# Altium schematic symbol library GL3520-10 SCH_QFN88_Individual_100_Library.SchLib: 94 symbols (part 1 of 2)
Pins are listed as number, name and electrical type; pins without a type are passive.

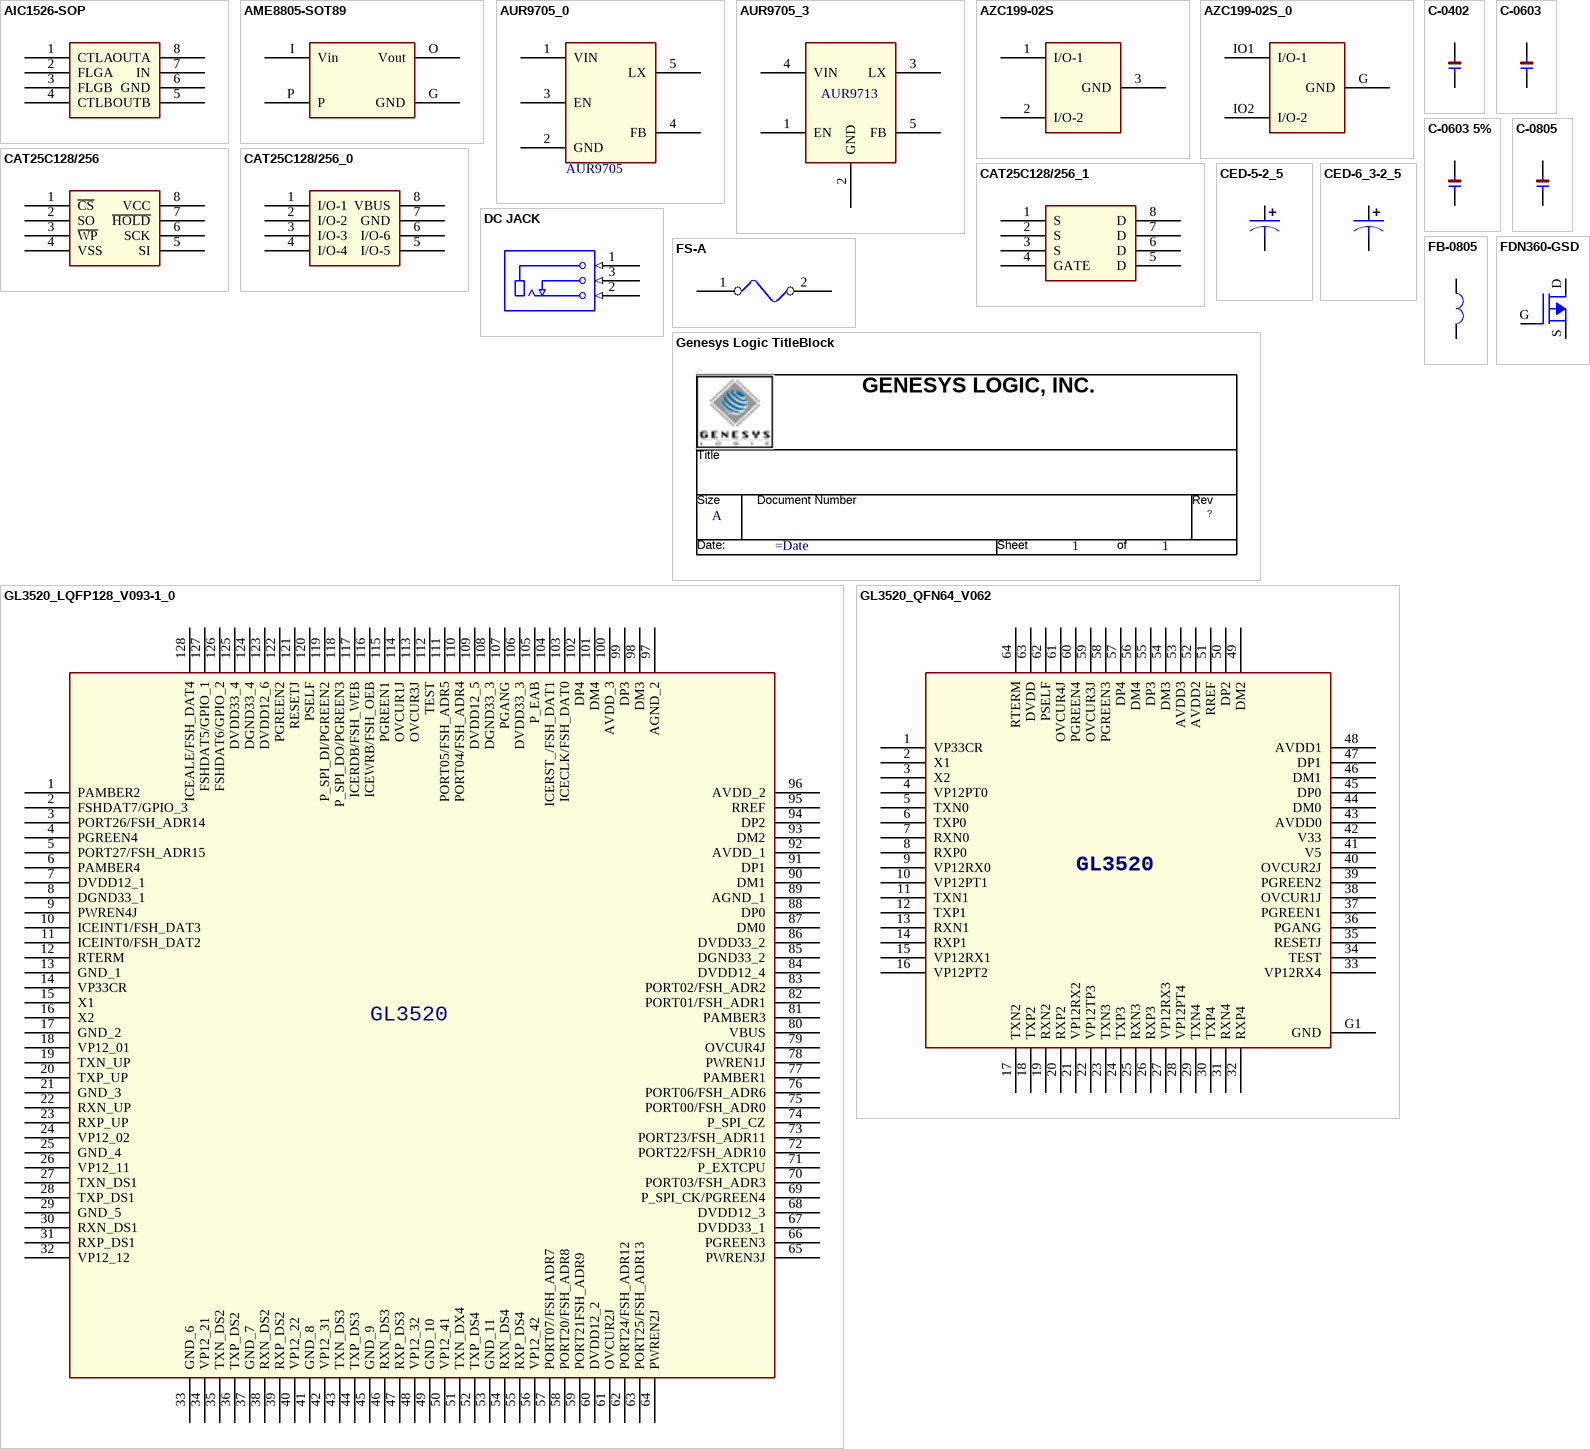
[diagram p0: symbols AIC1526-SOP to GL3520_QFN64_V062]

## AIC1526-SOP
designator U?
footprint I-SOP8-1_27A
pins: 1 CTLA, 2 FLGA, 3 FLGB, 4 CTLB, 5 OUTB, 6 GND, 7 IN, 8 OUTA

## AME8805-SOT89
designator U?
footprint I-SOT89-GIO-A
pins: G GND, I Vin, O Vout, P

## AUR9705_0
designator U?, comment AUR9705
footprint I-TSOT23-5P-2_9x1_6x0_95A
pins: 1 VIN, 2 GND, 3 EN, 4 FB, 5 LX

## AUR9705_3
designator U?, comment AUR9713
footprint I-TSOT23-5P-2_9x1_6x0_95A
pins: 1 EN, 2 GND, 3 LX, 4 VIN, 5 FB

## AZC199-02S
designator U?
pins: 1 I/O-1, 2 I/O-2, 3 GND

## AZC199-02S_0
designator U?
pins: G GND, IO1 I/O-1, IO2 I/O-2

## C-0402
designator C?
footprint CCS-0402
pins: 1, 2

## C-0603
designator C?
footprint CCS-0603
pins: 1, 2

## C-0603 5%
designator C?
footprint CCS-0603
pins: 1, 2

## C-0805
designator C?
footprint CCS-0805
pins: 1, 2

## CAT25C128/256
designator U?
pins: 1 ~{CS}, 2 SO, 3 ~{WP}, 4 VSS, 5 SI, 6 SCK, 7 ~{HOLD}, 8 VCC

## CAT25C128/256_0
designator U?
pins: 1 I/O-1, 2 I/O-2, 3 I/O-3, 4 I/O-4, 5 I/O-5, 6 I/O-6, 7 GND, 8 VBUS

## CAT25C128/256_1
designator U?
pins: 1 S, 2 S, 3 S, 4 GATE, 5 D, 6 D, 7 D, 8 D

## CED-5-2_5
designator EC?
footprint CED-5-2_5
pins: 1, 2
text: +

## CED-6_3-2_5
designator EC?
footprint CED-6_3-2_5
pins: 1, 2
text: +

## DC JACK
designator J?
footprint CND-DCJ-A
pins: 1 1S (in), 2 3T (in), 3 2TS (in)

## FB-0805
designator LB?
footprint LBS-0805
pins: 1, 2

## FDN360-GSD
designator Q?
footprint T-SOT23-GSD-A
pins: D, G, S

## FS-A
designator F?
footprint FS-A
pins: 1, 2

## Genesys Logic TitleBlock
designator *  Page Count: 1  Page Size: A  (hidden comment: *)  (graphical)
Page Number: 1; RevCode: ?; Page Create Date: March  8, 1995; Page Modify Date: =Date
text: GENESYS LOGIC, INC.; Title; Size; Document Number; Rev; Date:; Sheet; of

## GL3520_LQFP128_V093-1_0
designator U?
footprint I-LQFP128-0_4A
pins: 1 PAMBER2, 2 FSHDAT7/GPIO_3, 3 PORT26/FSH_ADR14, 4 PGREEN4, 5 PORT27/FSH_ADR15, 6 PAMBER4, 7 DVDD12_1, 8 DGND33_1, 9 PWREN4J, 10 ICEINT1/FSH_DAT3, 11 ICEINT0/FSH_DAT2, 12 RTERM, 13 GND_1, 14 VP33CR, 15 X1, 16 X2, 17 GND_2, 18 VP12_01, 19 TXN_UP, 20 TXP_UP, 21 GND_3, 22 RXN_UP, 23 RXP_UP, 24 VP12_02, 25 GND_4, 26 VP12_11, 27 TXN_DS1, 28 TXP_DS1, 29 GND_5, 30 RXN_DS1, 31 RXP_DS1, 32 VP12_12, 33 GND_6, 34 VP12_21, 35 TXN_DS2, 36 TXP_DS2, 37 GND_7, 38 RXN_DS2, 39 RXP_DS2, 40 VP12_22, 41 GND_8, 42 VP12_31, 43 TXN_DS3, 44 TXP_DS3, 45 GND_9, 46 RXN_DS3, 47 RXP_DS3, 48 VP12_32, 49 GND_10, 50 VP12_41, 51 TXN_DX4, 52 TXP_DS4, 53 GND_11, 54 RXN_DS4, 55 RXP_DS4, 56 VP12_42, 57 PORT07/FSH_ADR7, 58 PORT20/FSH_ADR8, 59 PORT21FSH_ADR9, 60 DVDD12_2, 61 OVCUR2J, 62 PORT24/FSH_ADR12, 63 PORT25/FSH_ADR13, 64 PWREN2J, 65 PWREN3J, 66 PGREEN3, 67 DVDD33_1, 68 DVDD12_3, 69 P_SPI_CK/PGREEN4, 70 PORT03/FSH_ADR3, 71 P_EXTCPU, 72 PORT22/FSH_ADR10, 73 PORT23/FSH_ADR11, 74 P_SPI_CZ, 75 PORT00/FSH_ADR0, 76 PORT06/FSH_ADR6, 77 PAMBER1, 78 PWREN1J, 79 OVCUR4J, 80 VBUS, 81 PAMBER3, 82 PORT01/FSH_ADR1, 83 PORT02/FSH_ADR2, 84 DVDD12_4, 85 DGND33_2, 86 DVDD33_2, 87 DM0, 88 DP0, 89 AGND_1, 90 DM1, 91 DP1, 92 AVDD_1, 93 DM2, 94 DP2, 95 RREF, 96 AVDD_2, 97 AGND_2, 98 DM3, 99 DP3, 100 AVDD_3, 101 DM4, 102 DP4, 103 ICECLK/FSH_DAT0, 104 ICERST_/FSH_DAT1, 105 P_EAB, 106 DVDD33_3, 107 PGANG, 108 DGND33_3, 109 DVDD12_5, 110 PORT04/FSH_ADR4, 111 PORT05/FSH_ADR5, 112 TEST, 113 OVCUR3J, 114 OVCUR1J, 115 PGREEN1, 116 ICEWRB/FSH_OEB, 117 ICERDB/FSH_WEB, 118 P_SPI_DO/PGREEN3, 119 P_SPI_DI/PGREEN2, 120 PSELF, 121 RESETJ, 122 PGREEN2, 123 DVDD12_6, 124 DGND33_4, 125 DVDD33_4, 126 FSHDAT6/GPIO_2, 127 FSHDAT5/GPIO_1, 128 ICEALE/FSH_DAT4
text: GL3520

## GL3520_QFN64_V062
designator U?
footprint I-LQFN64-9x9x0_5A
pins: 1 VP33CR, 2 X1, 3 X2, 4 VP12PT0, 5 TXN0, 6 TXP0, 7 RXN0, 8 RXP0, 9 VP12RX0, 10 VP12PT1, 11 TXN1, 12 TXP1, 13 RXN1, 14 RXP1, 15 VP12RX1, 16 VP12PT2, 17 TXN2, 18 TXP2, 19 RXN2, 20 RXP2, 21 VP12RX2, 22 VP12TP3, 23 TXN3, 24 TXP3, 25 RXN3, 26 RXP3, 27 VP12RX3, 28 VP12PT4, 29 TXN4, 30 TXP4, 31 RXN4, 32 RXP4, 33 VP12RX4, 34 TEST, 35 RESETJ, 36 PGANG, 37 PGREEN1, 38 OVCUR1J, 39 PGREEN2, 40 OVCUR2J, 41 V5, 42 V33, 43 AVDD0, 44 DM0, 45 DP0, 46 DM1, 47 DP1, 48 AVDD1, 49 DM2, 50 DP2, 51 RREF, 52 AVDD2, 53 AVDD3, 54 DM3, 55 DP3, 56 DM4, 57 DP4, 58 PGREEN3, 59 OVCUR3J, 60 PGREEN4, 61 OVCUR4J, 62 PSELF, 63 DVDD, 64 RTERM, G1 GND
text: GL3520

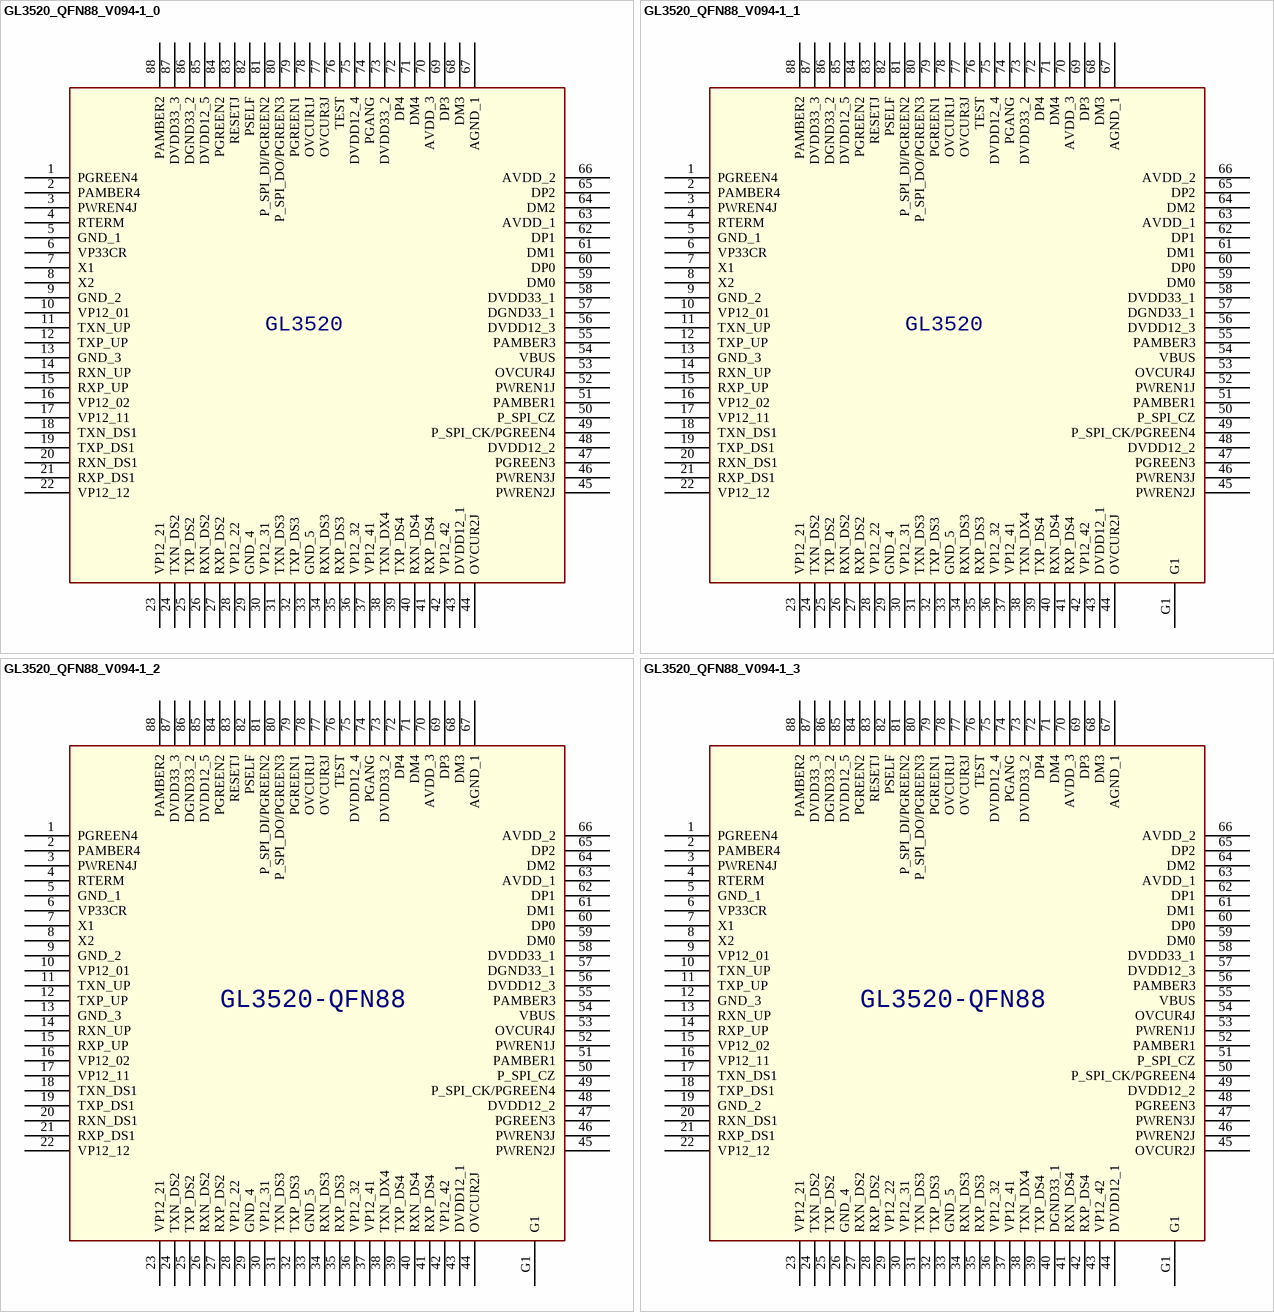
[diagram p1: symbols GL3520_QFN88_V094-1_0 to GL3520_QFN88_V094-1_3]

## GL3520_QFN88_V094-1_0
designator U?
footprint I-LQFP128-0_4A
pins: 1 PGREEN4, 2 PAMBER4, 3 PWREN4J, 4 RTERM, 5 GND_1, 6 VP33CR, 7 X1, 8 X2, 9 GND_2, 10 VP12_01, 11 TXN_UP, 12 TXP_UP, 13 GND_3, 14 RXN_UP, 15 RXP_UP, 16 VP12_02, 17 VP12_11, 18 TXN_DS1, 19 TXP_DS1, 20 RXN_DS1, 21 RXP_DS1, 22 VP12_12, 23 VP12_21, 24 TXN_DS2, 25 TXP_DS2, 26 RXN_DS2, 27 RXP_DS2, 28 VP12_22, 29 GND_4, 30 VP12_31, 31 TXN_DS3, 32 TXP_DS3, 33 GND_5, 34 RXN_DS3, 35 RXP_DS3, 36 VP12_32, 37 VP12_41, 38 TXN_DX4, 39 TXP_DS4, 40 RXN_DS4, 41 RXP_DS4, 42 VP12_42, 43 DVDD12_1, 44 OVCUR2J, 45 PWREN2J, 46 PWREN3J, 47 PGREEN3, 48 DVDD12_2, 49 P_SPI_CK/PGREEN4, 50 P_SPI_CZ, 51 PAMBER1, 52 PWREN1J, 53 OVCUR4J, 54 VBUS, 55 PAMBER3, 56 DVDD12_3, 57 DGND33_1, 58 DVDD33_1, 59 DM0, 60 DP0, 61 DM1, 62 DP1, 63 AVDD_1, 64 DM2, 65 DP2, 66 AVDD_2, 67 AGND_1, 68 DM3, 69 DP3, 70 AVDD_3, 71 DM4, 72 DP4, 73 DVDD33_2, 74 PGANG, 75 DVDD12_4, 76 TEST, 77 OVCUR3J, 78 OVCUR1J, 79 PGREEN1, 80 P_SPI_DO/PGREEN3, 81 P_SPI_DI/PGREEN2, 82 PSELF, 83 RESETJ, 84 PGREEN2, 85 DVDD12_5, 86 DGND33_2, 87 DVDD33_3, 88 PAMBER2
text: GL3520

## GL3520_QFN88_V094-1_1
designator U?
footprint I-LQFP128-0_4A
pins: 1 PGREEN4, 2 PAMBER4, 3 PWREN4J, 4 RTERM, 5 GND_1, 6 VP33CR, 7 X1, 8 X2, 9 GND_2, 10 VP12_01, 11 TXN_UP, 12 TXP_UP, 13 GND_3, 14 RXN_UP, 15 RXP_UP, 16 VP12_02, 17 VP12_11, 18 TXN_DS1, 19 TXP_DS1, 20 RXN_DS1, 21 RXP_DS1, 22 VP12_12, 23 VP12_21, 24 TXN_DS2, 25 TXP_DS2, 26 RXN_DS2, 27 RXP_DS2, 28 VP12_22, 29 GND_4, 30 VP12_31, 31 TXN_DS3, 32 TXP_DS3, 33 GND_5, 34 RXN_DS3, 35 RXP_DS3, 36 VP12_32, 37 VP12_41, 38 TXN_DX4, 39 TXP_DS4, 40 RXN_DS4, 41 RXP_DS4, 42 VP12_42, 43 DVDD12_1, 44 OVCUR2J, 45 PWREN2J, 46 PWREN3J, 47 PGREEN3, 48 DVDD12_2, 49 P_SPI_CK/PGREEN4, 50 P_SPI_CZ, 51 PAMBER1, 52 PWREN1J, 53 OVCUR4J, 54 VBUS, 55 PAMBER3, 56 DVDD12_3, 57 DGND33_1, 58 DVDD33_1, 59 DM0, 60 DP0, 61 DM1, 62 DP1, 63 AVDD_1, 64 DM2, 65 DP2, 66 AVDD_2, 67 AGND_1, 68 DM3, 69 DP3, 70 AVDD_3, 71 DM4, 72 DP4, 73 DVDD33_2, 74 PGANG, 75 DVDD12_4, 76 TEST, 77 OVCUR3J, 78 OVCUR1J, 79 PGREEN1, 80 P_SPI_DO/PGREEN3, 81 P_SPI_DI/PGREEN2, 82 PSELF, 83 RESETJ, 84 PGREEN2, 85 DVDD12_5, 86 DGND33_2, 87 DVDD33_3, 88 PAMBER2, G1
text: GL3520

## GL3520_QFN88_V094-1_2
designator U?  (value not drawn)
footprint I-LQFP128-0_4A
pins: 1 PGREEN4, 2 PAMBER4, 3 PWREN4J, 4 RTERM, 5 GND_1, 6 VP33CR, 7 X1, 8 X2, 9 GND_2, 10 VP12_01, 11 TXN_UP, 12 TXP_UP, 13 GND_3, 14 RXN_UP, 15 RXP_UP, 16 VP12_02, 17 VP12_11, 18 TXN_DS1, 19 TXP_DS1, 20 RXN_DS1, 21 RXP_DS1, 22 VP12_12, 23 VP12_21, 24 TXN_DS2, 25 TXP_DS2, 26 RXN_DS2, 27 RXP_DS2, 28 VP12_22, 29 GND_4, 30 VP12_31, 31 TXN_DS3, 32 TXP_DS3, 33 GND_5, 34 RXN_DS3, 35 RXP_DS3, 36 VP12_32, 37 VP12_41, 38 TXN_DX4, 39 TXP_DS4, 40 RXN_DS4, 41 RXP_DS4, 42 VP12_42, 43 DVDD12_1, 44 OVCUR2J, 45 PWREN2J, 46 PWREN3J, 47 PGREEN3, 48 DVDD12_2, 49 P_SPI_CK/PGREEN4, 50 P_SPI_CZ, 51 PAMBER1, 52 PWREN1J, 53 OVCUR4J, 54 VBUS, 55 PAMBER3, 56 DVDD12_3, 57 DGND33_1, 58 DVDD33_1, 59 DM0, 60 DP0, 61 DM1, 62 DP1, 63 AVDD_1, 64 DM2, 65 DP2, 66 AVDD_2, 67 AGND_1, 68 DM3, 69 DP3, 70 AVDD_3, 71 DM4, 72 DP4, 73 DVDD33_2, 74 PGANG, 75 DVDD12_4, 76 TEST, 77 OVCUR3J, 78 OVCUR1J, 79 PGREEN1, 80 P_SPI_DO/PGREEN3, 81 P_SPI_DI/PGREEN2, 82 PSELF, 83 RESETJ, 84 PGREEN2, 85 DVDD12_5, 86 DGND33_2, 87 DVDD33_3, 88 PAMBER2, G1
text: GL3520-QFN88

## GL3520_QFN88_V094-1_3
designator U?  (value not drawn)
footprint I-LQFP128-0_4A
pins: 1 PGREEN4, 2 PAMBER4, 3 PWREN4J, 4 RTERM, 5 GND_1, 6 VP33CR, 7 X1, 8 X2, 9 VP12_01, 10 TXN_UP, 11 TXP_UP, 12 GND_3, 13 RXN_UP, 14 RXP_UP, 15 VP12_02, 16 VP12_11, 17 TXN_DS1, 18 TXP_DS1, 19 GND_2, 20 RXN_DS1, 21 RXP_DS1, 22 VP12_12, 23 VP12_21, 24 TXN_DS2, 25 TXP_DS2, 26 GND_4, 27 RXN_DS2, 28 RXP_DS2, 29 VP12_22, 30 VP12_31, 31 TXN_DS3, 32 TXP_DS3, 33 GND_5, 34 RXN_DS3, 35 RXP_DS3, 36 VP12_32, 37 VP12_41, 38 TXN_DX4, 39 TXP_DS4, 40 DGND33_1, 41 RXN_DS4, 42 RXP_DS4, 43 VP12_42, 44 DVDD12_1, 45 OVCUR2J, 46 PWREN2J, 47 PWREN3J, 48 PGREEN3, 49 DVDD12_2, 50 P_SPI_CK/PGREEN4, 51 P_SPI_CZ, 52 PAMBER1, 53 PWREN1J, 54 OVCUR4J, 55 VBUS, 56 PAMBER3, 57 DVDD12_3, 58 DVDD33_1, 59 DM0, 60 DP0, 61 DM1, 62 DP1, 63 AVDD_1, 64 DM2, 65 DP2, 66 AVDD_2, 67 AGND_1, 68 DM3, 69 DP3, 70 AVDD_3, 71 DM4, 72 DP4, 73 DVDD33_2, 74 PGANG, 75 DVDD12_4, 76 TEST, 77 OVCUR3J, 78 OVCUR1J, 79 PGREEN1, 80 P_SPI_DO/PGREEN3, 81 P_SPI_DI/PGREEN2, 82 PSELF, 83 RESETJ, 84 PGREEN2, 85 DVDD12_5, 86 DGND33_2, 87 DVDD33_3, 88 PAMBER2, G1
text: GL3520-QFN88

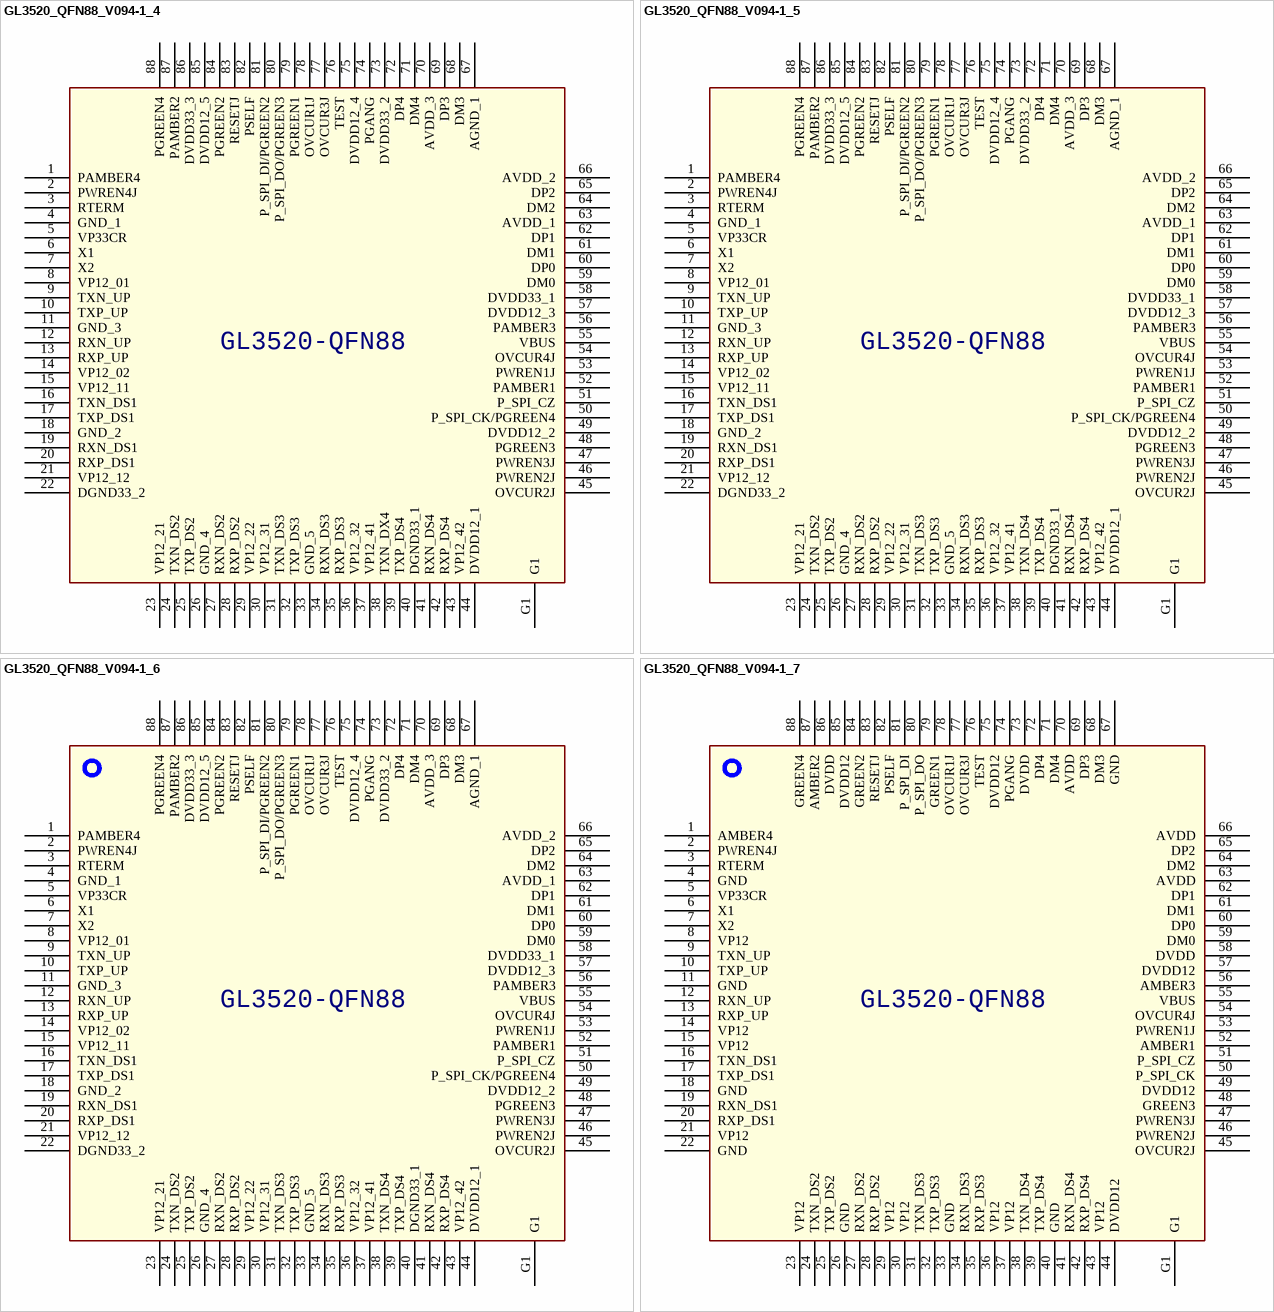
[diagram p2: symbols GL3520_QFN88_V094-1_4 to GL3520_QFN88_V094-1_7]

## GL3520_QFN88_V094-1_4
designator U?  (value not drawn)
footprint I-LQFP128-0_4A
pins: 1 PAMBER4, 2 PWREN4J, 3 RTERM, 4 GND_1, 5 VP33CR, 6 X1, 7 X2, 8 VP12_01, 9 TXN_UP, 10 TXP_UP, 11 GND_3, 12 RXN_UP, 13 RXP_UP, 14 VP12_02, 15 VP12_11, 16 TXN_DS1, 17 TXP_DS1, 18 GND_2, 19 RXN_DS1, 20 RXP_DS1, 21 VP12_12, 22 DGND33_2, 23 VP12_21, 24 TXN_DS2, 25 TXP_DS2, 26 GND_4, 27 RXN_DS2, 28 RXP_DS2, 29 VP12_22, 30 VP12_31, 31 TXN_DS3, 32 TXP_DS3, 33 GND_5, 34 RXN_DS3, 35 RXP_DS3, 36 VP12_32, 37 VP12_41, 38 TXN_DX4, 39 TXP_DS4, 40 DGND33_1, 41 RXN_DS4, 42 RXP_DS4, 43 VP12_42, 44 DVDD12_1, 45 OVCUR2J, 46 PWREN2J, 47 PWREN3J, 48 PGREEN3, 49 DVDD12_2, 50 P_SPI_CK/PGREEN4, 51 P_SPI_CZ, 52 PAMBER1, 53 PWREN1J, 54 OVCUR4J, 55 VBUS, 56 PAMBER3, 57 DVDD12_3, 58 DVDD33_1, 59 DM0, 60 DP0, 61 DM1, 62 DP1, 63 AVDD_1, 64 DM2, 65 DP2, 66 AVDD_2, 67 AGND_1, 68 DM3, 69 DP3, 70 AVDD_3, 71 DM4, 72 DP4, 73 DVDD33_2, 74 PGANG, 75 DVDD12_4, 76 TEST, 77 OVCUR3J, 78 OVCUR1J, 79 PGREEN1, 80 P_SPI_DO/PGREEN3, 81 P_SPI_DI/PGREEN2, 82 PSELF, 83 RESETJ, 84 PGREEN2, 85 DVDD12_5, 86 DVDD33_3, 87 PAMBER2, 88 PGREEN4, G1
text: GL3520-QFN88

## GL3520_QFN88_V094-1_5
designator U?  (value not drawn)
footprint I-LQFP128-0_4A
pins: 1 PAMBER4, 2 PWREN4J, 3 RTERM, 4 GND_1, 5 VP33CR, 6 X1, 7 X2, 8 VP12_01, 9 TXN_UP, 10 TXP_UP, 11 GND_3, 12 RXN_UP, 13 RXP_UP, 14 VP12_02, 15 VP12_11, 16 TXN_DS1, 17 TXP_DS1, 18 GND_2, 19 RXN_DS1, 20 RXP_DS1, 21 VP12_12, 22 DGND33_2, 23 VP12_21, 24 TXN_DS2, 25 TXP_DS2, 26 GND_4, 27 RXN_DS2, 28 RXP_DS2, 29 VP12_22, 30 VP12_31, 31 TXN_DS3, 32 TXP_DS3, 33 GND_5, 34 RXN_DS3, 35 RXP_DS3, 36 VP12_32, 37 VP12_41, 38 TXN_DS4, 39 TXP_DS4, 40 DGND33_1, 41 RXN_DS4, 42 RXP_DS4, 43 VP12_42, 44 DVDD12_1, 45 OVCUR2J, 46 PWREN2J, 47 PWREN3J, 48 PGREEN3, 49 DVDD12_2, 50 P_SPI_CK/PGREEN4, 51 P_SPI_CZ, 52 PAMBER1, 53 PWREN1J, 54 OVCUR4J, 55 VBUS, 56 PAMBER3, 57 DVDD12_3, 58 DVDD33_1, 59 DM0, 60 DP0, 61 DM1, 62 DP1, 63 AVDD_1, 64 DM2, 65 DP2, 66 AVDD_2, 67 AGND_1, 68 DM3, 69 DP3, 70 AVDD_3, 71 DM4, 72 DP4, 73 DVDD33_2, 74 PGANG, 75 DVDD12_4, 76 TEST, 77 OVCUR3J, 78 OVCUR1J, 79 PGREEN1, 80 P_SPI_DO/PGREEN3, 81 P_SPI_DI/PGREEN2, 82 PSELF, 83 RESETJ, 84 PGREEN2, 85 DVDD12_5, 86 DVDD33_3, 87 PAMBER2, 88 PGREEN4, G1
text: GL3520-QFN88

## GL3520_QFN88_V094-1_6
designator U?  (value not drawn)
footprint I-LQFP128-0_4A
pins: 1 PAMBER4, 2 PWREN4J, 3 RTERM, 4 GND_1, 5 VP33CR, 6 X1, 7 X2, 8 VP12_01, 9 TXN_UP, 10 TXP_UP, 11 GND_3, 12 RXN_UP, 13 RXP_UP, 14 VP12_02, 15 VP12_11, 16 TXN_DS1, 17 TXP_DS1, 18 GND_2, 19 RXN_DS1, 20 RXP_DS1, 21 VP12_12, 22 DGND33_2, 23 VP12_21, 24 TXN_DS2, 25 TXP_DS2, 26 GND_4, 27 RXN_DS2, 28 RXP_DS2, 29 VP12_22, 30 VP12_31, 31 TXN_DS3, 32 TXP_DS3, 33 GND_5, 34 RXN_DS3, 35 RXP_DS3, 36 VP12_32, 37 VP12_41, 38 TXN_DS4, 39 TXP_DS4, 40 DGND33_1, 41 RXN_DS4, 42 RXP_DS4, 43 VP12_42, 44 DVDD12_1, 45 OVCUR2J, 46 PWREN2J, 47 PWREN3J, 48 PGREEN3, 49 DVDD12_2, 50 P_SPI_CK/PGREEN4, 51 P_SPI_CZ, 52 PAMBER1, 53 PWREN1J, 54 OVCUR4J, 55 VBUS, 56 PAMBER3, 57 DVDD12_3, 58 DVDD33_1, 59 DM0, 60 DP0, 61 DM1, 62 DP1, 63 AVDD_1, 64 DM2, 65 DP2, 66 AVDD_2, 67 AGND_1, 68 DM3, 69 DP3, 70 AVDD_3, 71 DM4, 72 DP4, 73 DVDD33_2, 74 PGANG, 75 DVDD12_4, 76 TEST, 77 OVCUR3J, 78 OVCUR1J, 79 PGREEN1, 80 P_SPI_DO/PGREEN3, 81 P_SPI_DI/PGREEN2, 82 PSELF, 83 RESETJ, 84 PGREEN2, 85 DVDD12_5, 86 DVDD33_3, 87 PAMBER2, 88 PGREEN4, G1
text: GL3520-QFN88

## GL3520_QFN88_V094-1_7
designator U?  (value not drawn)
footprint I-LQFP128-0_4A
pins: 1 AMBER4, 2 PWREN4J, 3 RTERM, 4 GND, 5 VP33CR, 6 X1, 7 X2, 8 VP12, 9 TXN_UP, 10 TXP_UP, 11 GND, 12 RXN_UP, 13 RXP_UP, 14 VP12, 15 VP12, 16 TXN_DS1, 17 TXP_DS1, 18 GND, 19 RXN_DS1, 20 RXP_DS1, 21 VP12, 22 GND, 23 VP12, 24 TXN_DS2, 25 TXP_DS2, 26 GND, 27 RXN_DS2, 28 RXP_DS2, 29 VP12, 30 VP12, 31 TXN_DS3, 32 TXP_DS3, 33 GND, 34 RXN_DS3, 35 RXP_DS3, 36 VP12, 37 VP12, 38 TXN_DS4, 39 TXP_DS4, 40 GND, 41 RXN_DS4, 42 RXP_DS4, 43 VP12, 44 DVDD12, 45 OVCUR2J, 46 PWREN2J, 47 PWREN3J, 48 GREEN3, 49 DVDD12, 50 P_SPI_CK, 51 P_SPI_CZ, 52 AMBER1, 53 PWREN1J, 54 OVCUR4J, 55 VBUS, 56 AMBER3, 57 DVDD12, 58 DVDD, 59 DM0, 60 DP0, 61 DM1, 62 DP1, 63 AVDD, 64 DM2, 65 DP2, 66 AVDD, 67 GND, 68 DM3, 69 DP3, 70 AVDD, 71 DM4, 72 DP4, 73 DVDD, 74 PGANG, 75 DVDD12, 76 TEST, 77 OVCUR3J, 78 OVCUR1J, 79 GREEN1, 80 P_SPI_DO, 81 P_SPI_DI, 82 PSELF, 83 RESETJ, 84 GREEN2, 85 DVDD12, 86 DVDD, 87 AMBER2, 88 GREEN4, G1
text: GL3520-QFN88

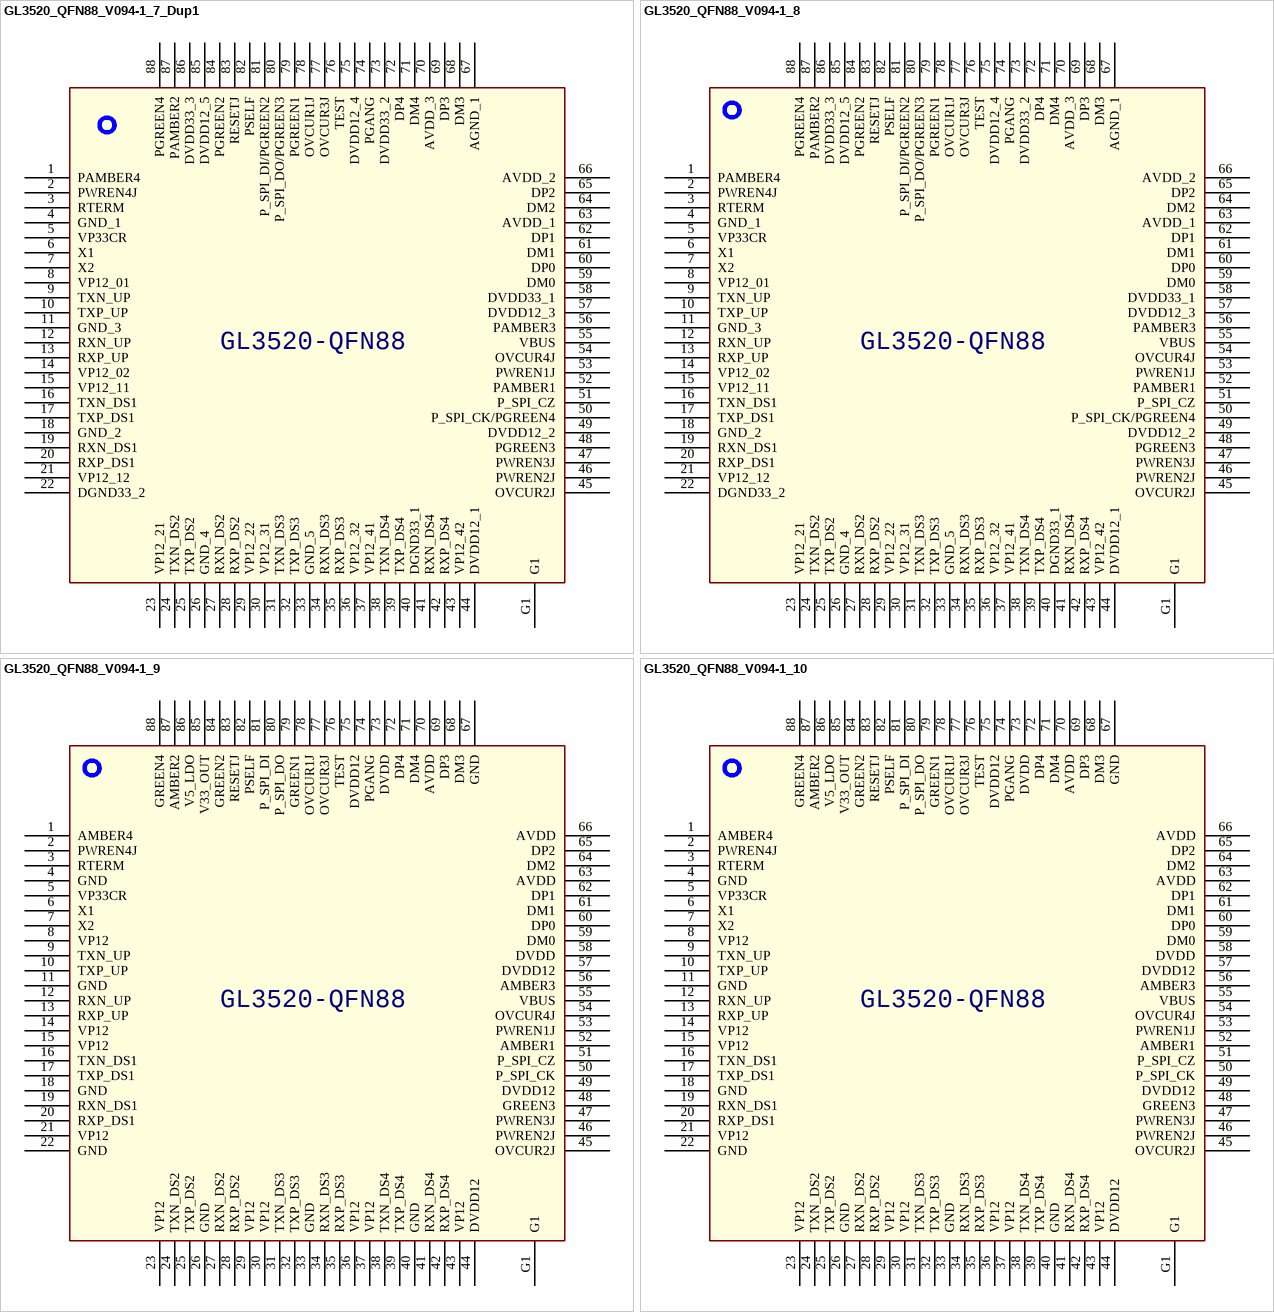
[diagram p3: symbols GL3520_QFN88_V094-1_7_Dup1 to GL3520_QFN88_V094-1_10]

## GL3520_QFN88_V094-1_7_Dup1
designator U?  (value not drawn)
footprint I-LQFP128-0_4A
pins: 1 PAMBER4, 2 PWREN4J, 3 RTERM, 4 GND_1, 5 VP33CR, 6 X1, 7 X2, 8 VP12_01, 9 TXN_UP, 10 TXP_UP, 11 GND_3, 12 RXN_UP, 13 RXP_UP, 14 VP12_02, 15 VP12_11, 16 TXN_DS1, 17 TXP_DS1, 18 GND_2, 19 RXN_DS1, 20 RXP_DS1, 21 VP12_12, 22 DGND33_2, 23 VP12_21, 24 TXN_DS2, 25 TXP_DS2, 26 GND_4, 27 RXN_DS2, 28 RXP_DS2, 29 VP12_22, 30 VP12_31, 31 TXN_DS3, 32 TXP_DS3, 33 GND_5, 34 RXN_DS3, 35 RXP_DS3, 36 VP12_32, 37 VP12_41, 38 TXN_DS4, 39 TXP_DS4, 40 DGND33_1, 41 RXN_DS4, 42 RXP_DS4, 43 VP12_42, 44 DVDD12_1, 45 OVCUR2J, 46 PWREN2J, 47 PWREN3J, 48 PGREEN3, 49 DVDD12_2, 50 P_SPI_CK/PGREEN4, 51 P_SPI_CZ, 52 PAMBER1, 53 PWREN1J, 54 OVCUR4J, 55 VBUS, 56 PAMBER3, 57 DVDD12_3, 58 DVDD33_1, 59 DM0, 60 DP0, 61 DM1, 62 DP1, 63 AVDD_1, 64 DM2, 65 DP2, 66 AVDD_2, 67 AGND_1, 68 DM3, 69 DP3, 70 AVDD_3, 71 DM4, 72 DP4, 73 DVDD33_2, 74 PGANG, 75 DVDD12_4, 76 TEST, 77 OVCUR3J, 78 OVCUR1J, 79 PGREEN1, 80 P_SPI_DO/PGREEN3, 81 P_SPI_DI/PGREEN2, 82 PSELF, 83 RESETJ, 84 PGREEN2, 85 DVDD12_5, 86 DVDD33_3, 87 PAMBER2, 88 PGREEN4, G1
text: GL3520-QFN88

## GL3520_QFN88_V094-1_8
designator U?  (value not drawn)
footprint I-LQFP128-0_4A
pins: 1 PAMBER4, 2 PWREN4J, 3 RTERM, 4 GND_1, 5 VP33CR, 6 X1, 7 X2, 8 VP12_01, 9 TXN_UP, 10 TXP_UP, 11 GND_3, 12 RXN_UP, 13 RXP_UP, 14 VP12_02, 15 VP12_11, 16 TXN_DS1, 17 TXP_DS1, 18 GND_2, 19 RXN_DS1, 20 RXP_DS1, 21 VP12_12, 22 DGND33_2, 23 VP12_21, 24 TXN_DS2, 25 TXP_DS2, 26 GND_4, 27 RXN_DS2, 28 RXP_DS2, 29 VP12_22, 30 VP12_31, 31 TXN_DS3, 32 TXP_DS3, 33 GND_5, 34 RXN_DS3, 35 RXP_DS3, 36 VP12_32, 37 VP12_41, 38 TXN_DS4, 39 TXP_DS4, 40 DGND33_1, 41 RXN_DS4, 42 RXP_DS4, 43 VP12_42, 44 DVDD12_1, 45 OVCUR2J, 46 PWREN2J, 47 PWREN3J, 48 PGREEN3, 49 DVDD12_2, 50 P_SPI_CK/PGREEN4, 51 P_SPI_CZ, 52 PAMBER1, 53 PWREN1J, 54 OVCUR4J, 55 VBUS, 56 PAMBER3, 57 DVDD12_3, 58 DVDD33_1, 59 DM0, 60 DP0, 61 DM1, 62 DP1, 63 AVDD_1, 64 DM2, 65 DP2, 66 AVDD_2, 67 AGND_1, 68 DM3, 69 DP3, 70 AVDD_3, 71 DM4, 72 DP4, 73 DVDD33_2, 74 PGANG, 75 DVDD12_4, 76 TEST, 77 OVCUR3J, 78 OVCUR1J, 79 PGREEN1, 80 P_SPI_DO/PGREEN3, 81 P_SPI_DI/PGREEN2, 82 PSELF, 83 RESETJ, 84 PGREEN2, 85 DVDD12_5, 86 DVDD33_3, 87 PAMBER2, 88 PGREEN4, G1
text: GL3520-QFN88

## GL3520_QFN88_V094-1_9
designator U?  (value not drawn)
footprint I-LQFP128-0_4A
pins: 1 AMBER4, 2 PWREN4J, 3 RTERM, 4 GND, 5 VP33CR, 6 X1, 7 X2, 8 VP12, 9 TXN_UP, 10 TXP_UP, 11 GND, 12 RXN_UP, 13 RXP_UP, 14 VP12, 15 VP12, 16 TXN_DS1, 17 TXP_DS1, 18 GND, 19 RXN_DS1, 20 RXP_DS1, 21 VP12, 22 GND, 23 VP12, 24 TXN_DS2, 25 TXP_DS2, 26 GND, 27 RXN_DS2, 28 RXP_DS2, 29 VP12, 30 VP12, 31 TXN_DS3, 32 TXP_DS3, 33 GND, 34 RXN_DS3, 35 RXP_DS3, 36 VP12, 37 VP12, 38 TXN_DS4, 39 TXP_DS4, 40 GND, 41 RXN_DS4, 42 RXP_DS4, 43 VP12, 44 DVDD12, 45 OVCUR2J, 46 PWREN2J, 47 PWREN3J, 48 GREEN3, 49 DVDD12, 50 P_SPI_CK, 51 P_SPI_CZ, 52 AMBER1, 53 PWREN1J, 54 OVCUR4J, 55 VBUS, 56 AMBER3, 57 DVDD12, 58 DVDD, 59 DM0, 60 DP0, 61 DM1, 62 DP1, 63 AVDD, 64 DM2, 65 DP2, 66 AVDD, 67 GND, 68 DM3, 69 DP3, 70 AVDD, 71 DM4, 72 DP4, 73 DVDD, 74 PGANG, 75 DVDD12, 76 TEST, 77 OVCUR3J, 78 OVCUR1J, 79 GREEN1, 80 P_SPI_DO, 81 P_SPI_DI, 82 PSELF, 83 RESETJ, 84 GREEN2, 85 V33_OUT, 86 V5_LDO, 87 AMBER2, 88 GREEN4, G1
text: GL3520-QFN88

## GL3520_QFN88_V094-1_10
designator U?  (value not drawn)
footprint I-LQFP128-0_4A
pins: 1 AMBER4, 2 PWREN4J, 3 RTERM, 4 GND, 5 VP33CR, 6 X1, 7 X2, 8 VP12, 9 TXN_UP, 10 TXP_UP, 11 GND, 12 RXN_UP, 13 RXP_UP, 14 VP12, 15 VP12, 16 TXN_DS1, 17 TXP_DS1, 18 GND, 19 RXN_DS1, 20 RXP_DS1, 21 VP12, 22 GND, 23 VP12, 24 TXN_DS2, 25 TXP_DS2, 26 GND, 27 RXN_DS2, 28 RXP_DS2, 29 VP12, 30 VP12, 31 TXN_DS3, 32 TXP_DS3, 33 GND, 34 RXN_DS3, 35 RXP_DS3, 36 VP12, 37 VP12, 38 TXN_DS4, 39 TXP_DS4, 40 GND, 41 RXN_DS4, 42 RXP_DS4, 43 VP12, 44 DVDD12, 45 OVCUR2J, 46 PWREN2J, 47 PWREN3J, 48 GREEN3, 49 DVDD12, 50 P_SPI_CK, 51 P_SPI_CZ, 52 AMBER1, 53 PWREN1J, 54 OVCUR4J, 55 VBUS, 56 AMBER3, 57 DVDD12, 58 DVDD, 59 DM0, 60 DP0, 61 DM1, 62 DP1, 63 AVDD, 64 DM2, 65 DP2, 66 AVDD, 67 GND, 68 DM3, 69 DP3, 70 AVDD, 71 DM4, 72 DP4, 73 DVDD, 74 PGANG, 75 DVDD12, 76 TEST, 77 OVCUR3J, 78 OVCUR1J, 79 GREEN1, 80 P_SPI_DO, 81 P_SPI_DI, 82 PSELF, 83 RESETJ, 84 GREEN2, 85 V33_OUT, 86 V5_LDO, 87 AMBER2, 88 GREEN4, G1
text: GL3520-QFN88

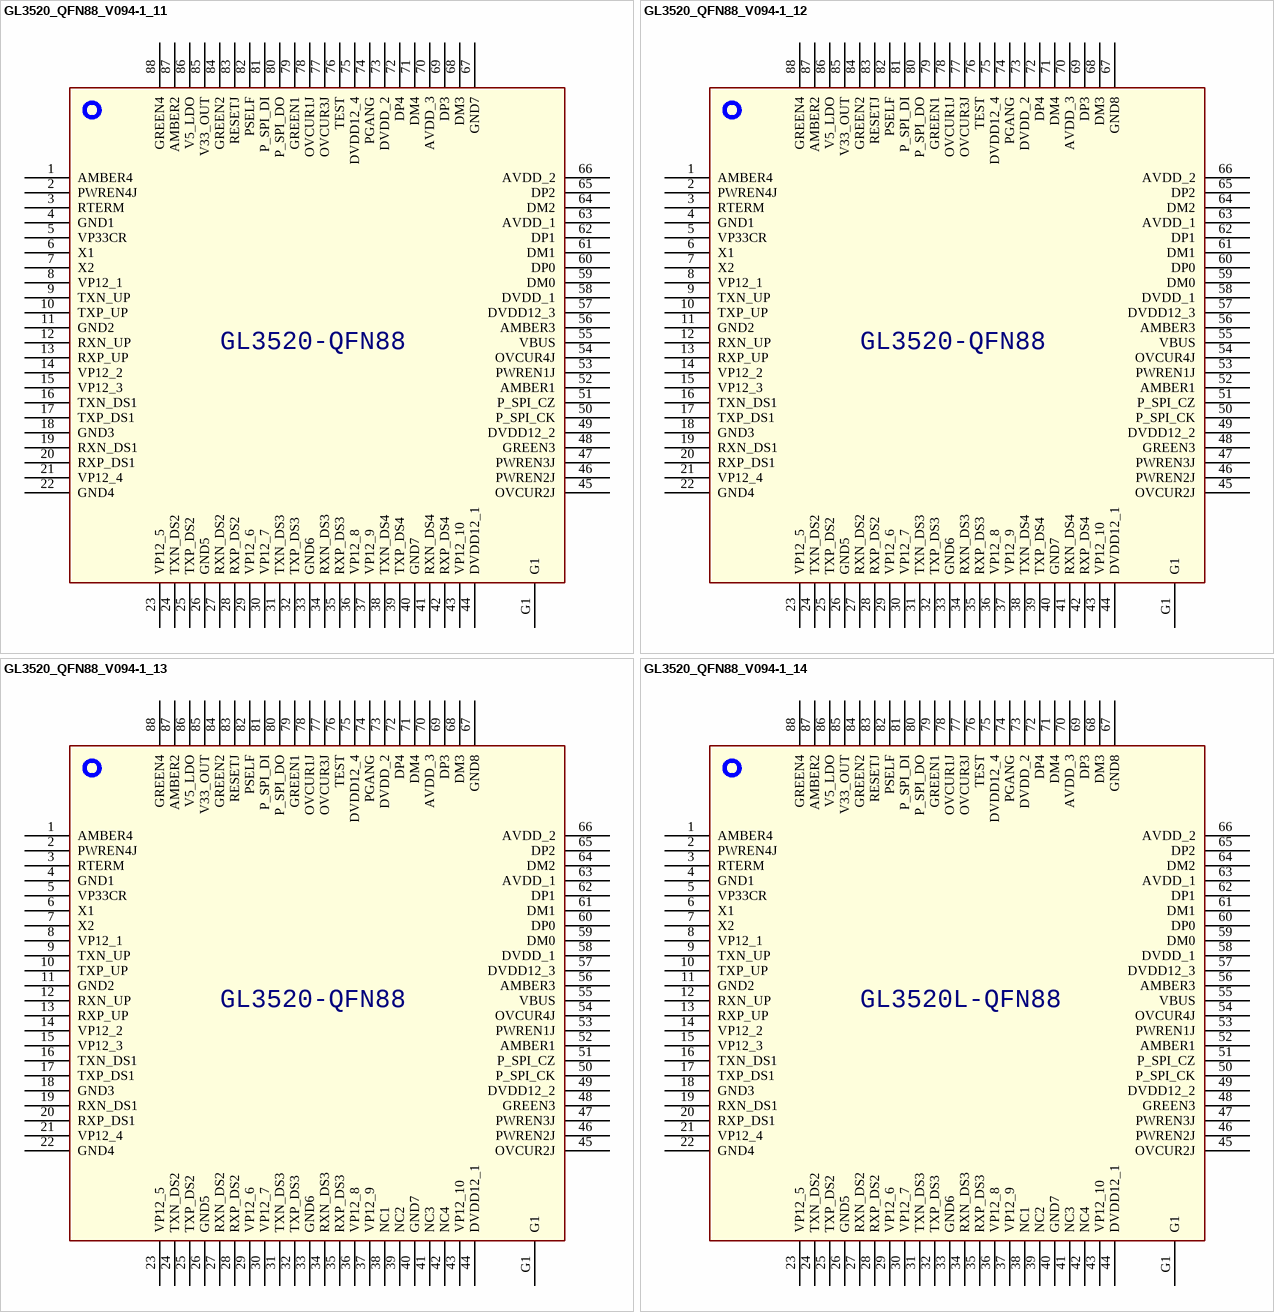
[diagram p4: symbols GL3520_QFN88_V094-1_11 to GL3520_QFN88_V094-1_14]

## GL3520_QFN88_V094-1_11
designator U?  (value not drawn)
footprint I-LQFP128-0_4A
pins: 1 AMBER4, 2 PWREN4J, 3 RTERM, 4 GND1, 5 VP33CR, 6 X1, 7 X2, 8 VP12_1, 9 TXN_UP, 10 TXP_UP, 11 GND2, 12 RXN_UP, 13 RXP_UP, 14 VP12_2, 15 VP12_3, 16 TXN_DS1, 17 TXP_DS1, 18 GND3, 19 RXN_DS1, 20 RXP_DS1, 21 VP12_4, 22 GND4, 23 VP12_5, 24 TXN_DS2, 25 TXP_DS2, 26 GND5, 27 RXN_DS2, 28 RXP_DS2, 29 VP12_6, 30 VP12_7, 31 TXN_DS3, 32 TXP_DS3, 33 GND6, 34 RXN_DS3, 35 RXP_DS3, 36 VP12_8, 37 VP12_9, 38 TXN_DS4, 39 TXP_DS4, 40 GND7, 41 RXN_DS4, 42 RXP_DS4, 43 VP12_10, 44 DVDD12_1, 45 OVCUR2J, 46 PWREN2J, 47 PWREN3J, 48 GREEN3, 49 DVDD12_2, 50 P_SPI_CK, 51 P_SPI_CZ, 52 AMBER1, 53 PWREN1J, 54 OVCUR4J, 55 VBUS, 56 AMBER3, 57 DVDD12_3, 58 DVDD_1, 59 DM0, 60 DP0, 61 DM1, 62 DP1, 63 AVDD_1, 64 DM2, 65 DP2, 66 AVDD_2, 67 GND7, 68 DM3, 69 DP3, 70 AVDD_3, 71 DM4, 72 DP4, 73 DVDD_2, 74 PGANG, 75 DVDD12_4, 76 TEST, 77 OVCUR3J, 78 OVCUR1J, 79 GREEN1, 80 P_SPI_DO, 81 P_SPI_DI, 82 PSELF, 83 RESETJ, 84 GREEN2, 85 V33_OUT, 86 V5_LDO, 87 AMBER2, 88 GREEN4, G1
text: GL3520-QFN88

## GL3520_QFN88_V094-1_12
designator U?  (value not drawn)
footprint I-LQFP128-0_4A
pins: 1 AMBER4, 2 PWREN4J, 3 RTERM, 4 GND1, 5 VP33CR, 6 X1, 7 X2, 8 VP12_1, 9 TXN_UP, 10 TXP_UP, 11 GND2, 12 RXN_UP, 13 RXP_UP, 14 VP12_2, 15 VP12_3, 16 TXN_DS1, 17 TXP_DS1, 18 GND3, 19 RXN_DS1, 20 RXP_DS1, 21 VP12_4, 22 GND4, 23 VP12_5, 24 TXN_DS2, 25 TXP_DS2, 26 GND5, 27 RXN_DS2, 28 RXP_DS2, 29 VP12_6, 30 VP12_7, 31 TXN_DS3, 32 TXP_DS3, 33 GND6, 34 RXN_DS3, 35 RXP_DS3, 36 VP12_8, 37 VP12_9, 38 TXN_DS4, 39 TXP_DS4, 40 GND7, 41 RXN_DS4, 42 RXP_DS4, 43 VP12_10, 44 DVDD12_1, 45 OVCUR2J, 46 PWREN2J, 47 PWREN3J, 48 GREEN3, 49 DVDD12_2, 50 P_SPI_CK, 51 P_SPI_CZ, 52 AMBER1, 53 PWREN1J, 54 OVCUR4J, 55 VBUS, 56 AMBER3, 57 DVDD12_3, 58 DVDD_1, 59 DM0, 60 DP0, 61 DM1, 62 DP1, 63 AVDD_1, 64 DM2, 65 DP2, 66 AVDD_2, 67 GND8, 68 DM3, 69 DP3, 70 AVDD_3, 71 DM4, 72 DP4, 73 DVDD_2, 74 PGANG, 75 DVDD12_4, 76 TEST, 77 OVCUR3J, 78 OVCUR1J, 79 GREEN1, 80 P_SPI_DO, 81 P_SPI_DI, 82 PSELF, 83 RESETJ, 84 GREEN2, 85 V33_OUT, 86 V5_LDO, 87 AMBER2, 88 GREEN4, G1
text: GL3520-QFN88

## GL3520_QFN88_V094-1_13
designator U?  (value not drawn)
footprint I-LQFP128-0_4A
pins: 1 AMBER4, 2 PWREN4J, 3 RTERM, 4 GND1, 5 VP33CR, 6 X1, 7 X2, 8 VP12_1, 9 TXN_UP, 10 TXP_UP, 11 GND2, 12 RXN_UP, 13 RXP_UP, 14 VP12_2, 15 VP12_3, 16 TXN_DS1, 17 TXP_DS1, 18 GND3, 19 RXN_DS1, 20 RXP_DS1, 21 VP12_4, 22 GND4, 23 VP12_5, 24 TXN_DS2, 25 TXP_DS2, 26 GND5, 27 RXN_DS2, 28 RXP_DS2, 29 VP12_6, 30 VP12_7, 31 TXN_DS3, 32 TXP_DS3, 33 GND6, 34 RXN_DS3, 35 RXP_DS3, 36 VP12_8, 37 VP12_9, 38 NC1, 39 NC2, 40 GND7, 41 NC3, 42 NC4, 43 VP12_10, 44 DVDD12_1, 45 OVCUR2J, 46 PWREN2J, 47 PWREN3J, 48 GREEN3, 49 DVDD12_2, 50 P_SPI_CK, 51 P_SPI_CZ, 52 AMBER1, 53 PWREN1J, 54 OVCUR4J, 55 VBUS, 56 AMBER3, 57 DVDD12_3, 58 DVDD_1, 59 DM0, 60 DP0, 61 DM1, 62 DP1, 63 AVDD_1, 64 DM2, 65 DP2, 66 AVDD_2, 67 GND8, 68 DM3, 69 DP3, 70 AVDD_3, 71 DM4, 72 DP4, 73 DVDD_2, 74 PGANG, 75 DVDD12_4, 76 TEST, 77 OVCUR3J, 78 OVCUR1J, 79 GREEN1, 80 P_SPI_DO, 81 P_SPI_DI, 82 PSELF, 83 RESETJ, 84 GREEN2, 85 V33_OUT, 86 V5_LDO, 87 AMBER2, 88 GREEN4, G1
text: GL3520-QFN88

## GL3520_QFN88_V094-1_14
designator U?  (value not drawn)
footprint I-LQFP128-0_4A
pins: 1 AMBER4, 2 PWREN4J, 3 RTERM, 4 GND1, 5 VP33CR, 6 X1, 7 X2, 8 VP12_1, 9 TXN_UP, 10 TXP_UP, 11 GND2, 12 RXN_UP, 13 RXP_UP, 14 VP12_2, 15 VP12_3, 16 TXN_DS1, 17 TXP_DS1, 18 GND3, 19 RXN_DS1, 20 RXP_DS1, 21 VP12_4, 22 GND4, 23 VP12_5, 24 TXN_DS2, 25 TXP_DS2, 26 GND5, 27 RXN_DS2, 28 RXP_DS2, 29 VP12_6, 30 VP12_7, 31 TXN_DS3, 32 TXP_DS3, 33 GND6, 34 RXN_DS3, 35 RXP_DS3, 36 VP12_8, 37 VP12_9, 38 NC1, 39 NC2, 40 GND7, 41 NC3, 42 NC4, 43 VP12_10, 44 DVDD12_1, 45 OVCUR2J, 46 PWREN2J, 47 PWREN3J, 48 GREEN3, 49 DVDD12_2, 50 P_SPI_CK, 51 P_SPI_CZ, 52 AMBER1, 53 PWREN1J, 54 OVCUR4J, 55 VBUS, 56 AMBER3, 57 DVDD12_3, 58 DVDD_1, 59 DM0, 60 DP0, 61 DM1, 62 DP1, 63 AVDD_1, 64 DM2, 65 DP2, 66 AVDD_2, 67 GND8, 68 DM3, 69 DP3, 70 AVDD_3, 71 DM4, 72 DP4, 73 DVDD_2, 74 PGANG, 75 DVDD12_4, 76 TEST, 77 OVCUR3J, 78 OVCUR1J, 79 GREEN1, 80 P_SPI_DO, 81 P_SPI_DI, 82 PSELF, 83 RESETJ, 84 GREEN2, 85 V33_OUT, 86 V5_LDO, 87 AMBER2, 88 GREEN4, G1
text: GL3520L-QFN88

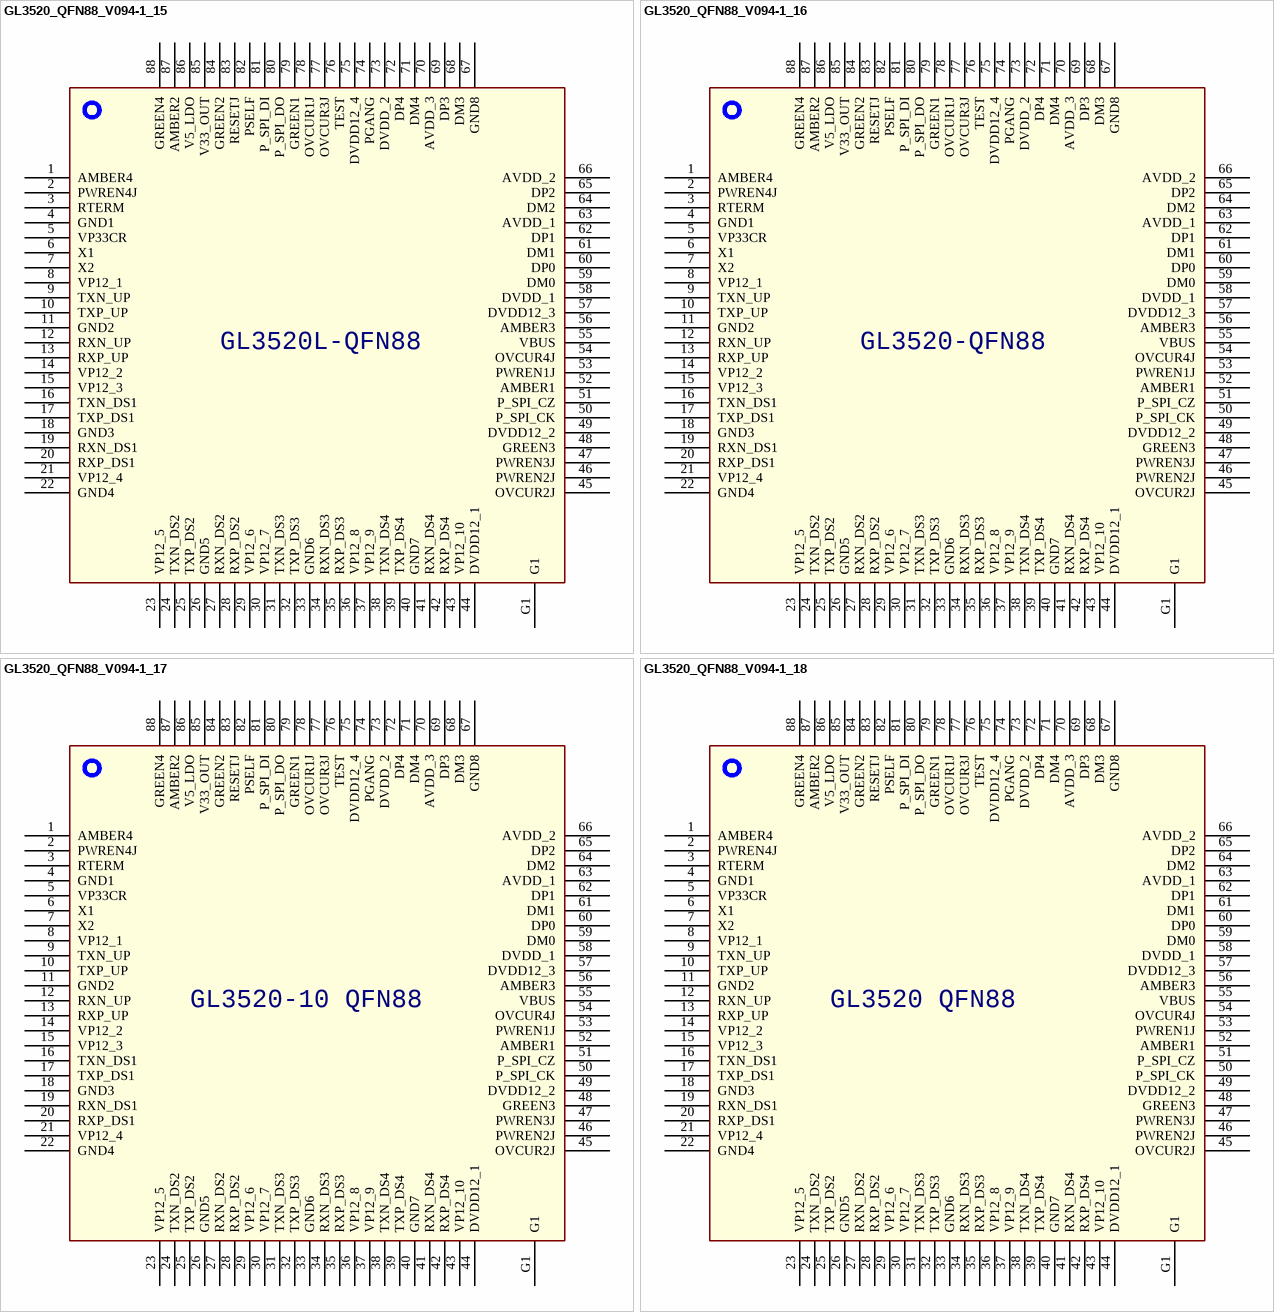
[diagram p5: symbols GL3520_QFN88_V094-1_15 to GL3520_QFN88_V094-1_18]

## GL3520_QFN88_V094-1_15
designator U?  (value not drawn)
footprint I-LQFP128-0_4A
pins: 1 AMBER4, 2 PWREN4J, 3 RTERM, 4 GND1, 5 VP33CR, 6 X1, 7 X2, 8 VP12_1, 9 TXN_UP, 10 TXP_UP, 11 GND2, 12 RXN_UP, 13 RXP_UP, 14 VP12_2, 15 VP12_3, 16 TXN_DS1, 17 TXP_DS1, 18 GND3, 19 RXN_DS1, 20 RXP_DS1, 21 VP12_4, 22 GND4, 23 VP12_5, 24 TXN_DS2, 25 TXP_DS2, 26 GND5, 27 RXN_DS2, 28 RXP_DS2, 29 VP12_6, 30 VP12_7, 31 TXN_DS3, 32 TXP_DS3, 33 GND6, 34 RXN_DS3, 35 RXP_DS3, 36 VP12_8, 37 VP12_9, 38 TXN_DS4, 39 TXP_DS4, 40 GND7, 41 RXN_DS4, 42 RXP_DS4, 43 VP12_10, 44 DVDD12_1, 45 OVCUR2J, 46 PWREN2J, 47 PWREN3J, 48 GREEN3, 49 DVDD12_2, 50 P_SPI_CK, 51 P_SPI_CZ, 52 AMBER1, 53 PWREN1J, 54 OVCUR4J, 55 VBUS, 56 AMBER3, 57 DVDD12_3, 58 DVDD_1, 59 DM0, 60 DP0, 61 DM1, 62 DP1, 63 AVDD_1, 64 DM2, 65 DP2, 66 AVDD_2, 67 GND8, 68 DM3, 69 DP3, 70 AVDD_3, 71 DM4, 72 DP4, 73 DVDD_2, 74 PGANG, 75 DVDD12_4, 76 TEST, 77 OVCUR3J, 78 OVCUR1J, 79 GREEN1, 80 P_SPI_DO, 81 P_SPI_DI, 82 PSELF, 83 RESETJ, 84 GREEN2, 85 V33_OUT, 86 V5_LDO, 87 AMBER2, 88 GREEN4, G1
text: GL3520L-QFN88

## GL3520_QFN88_V094-1_16
designator U?  (value not drawn)
footprint I-LQFP128-0_4A
pins: 1 AMBER4, 2 PWREN4J, 3 RTERM, 4 GND1, 5 VP33CR, 6 X1, 7 X2, 8 VP12_1, 9 TXN_UP, 10 TXP_UP, 11 GND2, 12 RXN_UP, 13 RXP_UP, 14 VP12_2, 15 VP12_3, 16 TXN_DS1, 17 TXP_DS1, 18 GND3, 19 RXN_DS1, 20 RXP_DS1, 21 VP12_4, 22 GND4, 23 VP12_5, 24 TXN_DS2, 25 TXP_DS2, 26 GND5, 27 RXN_DS2, 28 RXP_DS2, 29 VP12_6, 30 VP12_7, 31 TXN_DS3, 32 TXP_DS3, 33 GND6, 34 RXN_DS3, 35 RXP_DS3, 36 VP12_8, 37 VP12_9, 38 TXN_DS4, 39 TXP_DS4, 40 GND7, 41 RXN_DS4, 42 RXP_DS4, 43 VP12_10, 44 DVDD12_1, 45 OVCUR2J, 46 PWREN2J, 47 PWREN3J, 48 GREEN3, 49 DVDD12_2, 50 P_SPI_CK, 51 P_SPI_CZ, 52 AMBER1, 53 PWREN1J, 54 OVCUR4J, 55 VBUS, 56 AMBER3, 57 DVDD12_3, 58 DVDD_1, 59 DM0, 60 DP0, 61 DM1, 62 DP1, 63 AVDD_1, 64 DM2, 65 DP2, 66 AVDD_2, 67 GND8, 68 DM3, 69 DP3, 70 AVDD_3, 71 DM4, 72 DP4, 73 DVDD_2, 74 PGANG, 75 DVDD12_4, 76 TEST, 77 OVCUR3J, 78 OVCUR1J, 79 GREEN1, 80 P_SPI_DO, 81 P_SPI_DI, 82 PSELF, 83 RESETJ, 84 GREEN2, 85 V33_OUT, 86 V5_LDO, 87 AMBER2, 88 GREEN4, G1
text: GL3520-QFN88

## GL3520_QFN88_V094-1_17
designator U?  (value not drawn)
footprint I-LQFP128-0_4A
pins: 1 AMBER4, 2 PWREN4J, 3 RTERM, 4 GND1, 5 VP33CR, 6 X1, 7 X2, 8 VP12_1, 9 TXN_UP, 10 TXP_UP, 11 GND2, 12 RXN_UP, 13 RXP_UP, 14 VP12_2, 15 VP12_3, 16 TXN_DS1, 17 TXP_DS1, 18 GND3, 19 RXN_DS1, 20 RXP_DS1, 21 VP12_4, 22 GND4, 23 VP12_5, 24 TXN_DS2, 25 TXP_DS2, 26 GND5, 27 RXN_DS2, 28 RXP_DS2, 29 VP12_6, 30 VP12_7, 31 TXN_DS3, 32 TXP_DS3, 33 GND6, 34 RXN_DS3, 35 RXP_DS3, 36 VP12_8, 37 VP12_9, 38 TXN_DS4, 39 TXP_DS4, 40 GND7, 41 RXN_DS4, 42 RXP_DS4, 43 VP12_10, 44 DVDD12_1, 45 OVCUR2J, 46 PWREN2J, 47 PWREN3J, 48 GREEN3, 49 DVDD12_2, 50 P_SPI_CK, 51 P_SPI_CZ, 52 AMBER1, 53 PWREN1J, 54 OVCUR4J, 55 VBUS, 56 AMBER3, 57 DVDD12_3, 58 DVDD_1, 59 DM0, 60 DP0, 61 DM1, 62 DP1, 63 AVDD_1, 64 DM2, 65 DP2, 66 AVDD_2, 67 GND8, 68 DM3, 69 DP3, 70 AVDD_3, 71 DM4, 72 DP4, 73 DVDD_2, 74 PGANG, 75 DVDD12_4, 76 TEST, 77 OVCUR3J, 78 OVCUR1J, 79 GREEN1, 80 P_SPI_DO, 81 P_SPI_DI, 82 PSELF, 83 RESETJ, 84 GREEN2, 85 V33_OUT, 86 V5_LDO, 87 AMBER2, 88 GREEN4, G1
text: GL3520-10 QFN88

## GL3520_QFN88_V094-1_18
designator U?  (value not drawn)
footprint I-LQFP128-0_4A
pins: 1 AMBER4, 2 PWREN4J, 3 RTERM, 4 GND1, 5 VP33CR, 6 X1, 7 X2, 8 VP12_1, 9 TXN_UP, 10 TXP_UP, 11 GND2, 12 RXN_UP, 13 RXP_UP, 14 VP12_2, 15 VP12_3, 16 TXN_DS1, 17 TXP_DS1, 18 GND3, 19 RXN_DS1, 20 RXP_DS1, 21 VP12_4, 22 GND4, 23 VP12_5, 24 TXN_DS2, 25 TXP_DS2, 26 GND5, 27 RXN_DS2, 28 RXP_DS2, 29 VP12_6, 30 VP12_7, 31 TXN_DS3, 32 TXP_DS3, 33 GND6, 34 RXN_DS3, 35 RXP_DS3, 36 VP12_8, 37 VP12_9, 38 TXN_DS4, 39 TXP_DS4, 40 GND7, 41 RXN_DS4, 42 RXP_DS4, 43 VP12_10, 44 DVDD12_1, 45 OVCUR2J, 46 PWREN2J, 47 PWREN3J, 48 GREEN3, 49 DVDD12_2, 50 P_SPI_CK, 51 P_SPI_CZ, 52 AMBER1, 53 PWREN1J, 54 OVCUR4J, 55 VBUS, 56 AMBER3, 57 DVDD12_3, 58 DVDD_1, 59 DM0, 60 DP0, 61 DM1, 62 DP1, 63 AVDD_1, 64 DM2, 65 DP2, 66 AVDD_2, 67 GND8, 68 DM3, 69 DP3, 70 AVDD_3, 71 DM4, 72 DP4, 73 DVDD_2, 74 PGANG, 75 DVDD12_4, 76 TEST, 77 OVCUR3J, 78 OVCUR1J, 79 GREEN1, 80 P_SPI_DO, 81 P_SPI_DI, 82 PSELF, 83 RESETJ, 84 GREEN2, 85 V33_OUT, 86 V5_LDO, 87 AMBER2, 88 GREEN4, G1
text: GL3520 QFN88

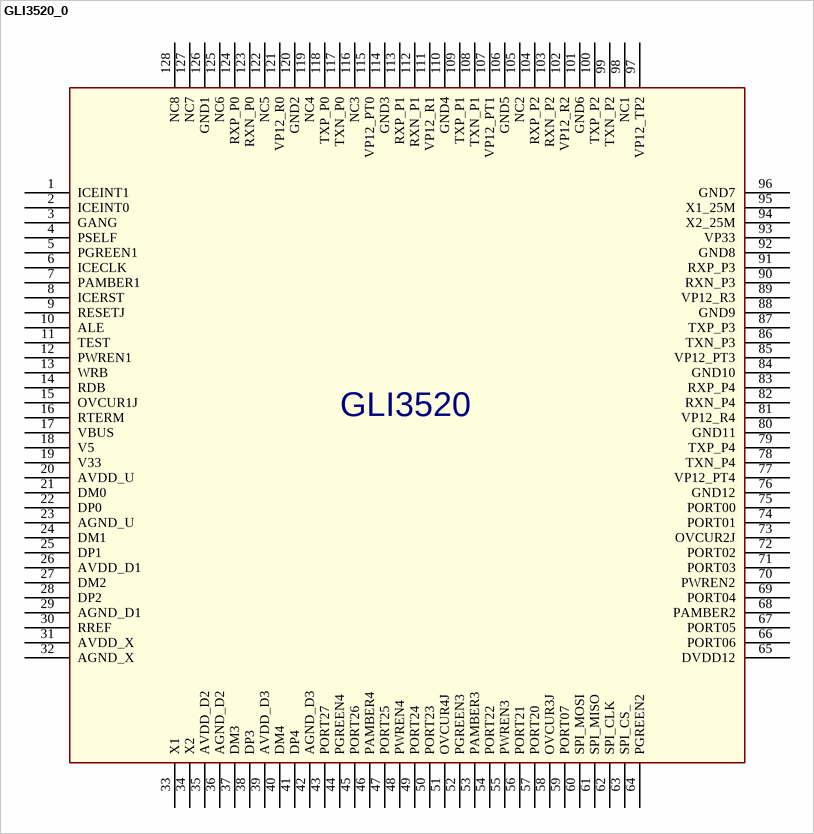
[diagram p6: symbol GLI3520_0]

## GLI3520_0
designator U?
pins: 1 ICEINT1, 2 ICEINT0, 3 GANG, 4 PSELF, 5 PGREEN1, 6 ICECLK, 7 PAMBER1, 8 ICERST, 9 RESETJ, 10 ALE, 11 TEST, 12 PWREN1, 13 WRB, 14 RDB, 15 OVCUR1J, 16 RTERM, 17 VBUS, 18 V5, 19 V33, 20 AVDD_U, 21 DM0, 22 DP0, 23 AGND_U, 24 DM1, 25 DP1, 26 AVDD_D1, 27 DM2, 28 DP2, 29 AGND_D1, 30 RREF, 31 AVDD_X, 32 AGND_X, 33 X1, 34 X2, 35 AVDD_D2, 36 AGND_D2, 37 DM3, 38 DP3, 39 AVDD_D3, 40 DM4, 41 DP4, 42 AGND_D3, 43 PORT27, 44 PGREEN4, 45 PORT26, 46 PAMBER4, 47 PORT25, 48 PWREN4, 49 PORT24, 50 PORT23, 51 OVCUR4J, 52 PGREEN3, 53 PAMBER3, 54 PORT22, 55 PWREN3, 56 PORT21, 57 PORT20, 58 OVCUR3J, 59 PORT07, 60 SPI_MOSI, 61 SPI_MISO, 62 SPI_CLK, 63 SPI_CS_, 64 PGREEN2, 65 DVDD12, 66 PORT06, 67 PORT05, 68 PAMBER2, 69 PORT04, 70 PWREN2, 71 PORT03, 72 PORT02, 73 OVCUR2J, 74 PORT01, 75 PORT00, 76 GND12, 77 VP12_PT4, 78 TXN_P4, 79 TXP_P4, 80 GND11, 81 VP12_R4, 82 RXN_P4, 83 RXP_P4, 84 GND10, 85 VP12_PT3, 86 TXN_P3, 87 TXP_P3, 88 GND9, 89 VP12_R3, 90 RXN_P3, 91 RXP_P3, 92 GND8, 93 VP33, 94 X2_25M, 95 X1_25M, 96 GND7, 97 VP12_TP2, 98 NC1, 99 TXN_P2, 100 TXP_P2, 101 GND6, 102 VP12_R2, 103 RXN_P2, 104 RXP_P2, 105 NC2, 106 GND5, 107 VP12_PT1, 108 TXN_P1, 109 TXP_P1, 110 GND4, 111 VP12_R1, 112 RXN_P1, 113 RXP_P1, 114 GND3, 115 VP12_PT0, 116 NC3, 117 TXN_P0, 118 TXP_P0, 119 NC4, 120 GND2, 121 VP12_R0, 122 NC5, 123 RXN_P0, 124 RXP_P0, 125 NC6, 126 GND1, 127 NC7, 128 NC8
text: GLI3520

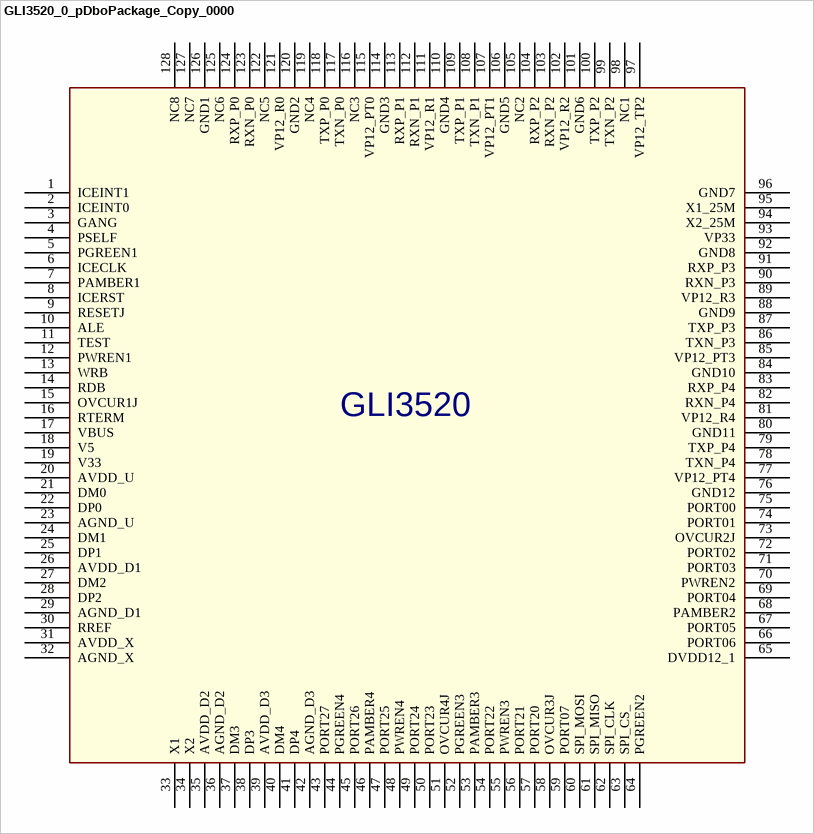
[diagram p7: symbol GLI3520_0_pDboPackage_Copy_0000]

## GLI3520_0_pDboPackage_Copy_0000
designator U?
pins: 1 ICEINT1, 2 ICEINT0, 3 GANG, 4 PSELF, 5 PGREEN1, 6 ICECLK, 7 PAMBER1, 8 ICERST, 9 RESETJ, 10 ALE, 11 TEST, 12 PWREN1, 13 WRB, 14 RDB, 15 OVCUR1J, 16 RTERM, 17 VBUS, 18 V5, 19 V33, 20 AVDD_U, 21 DM0, 22 DP0, 23 AGND_U, 24 DM1, 25 DP1, 26 AVDD_D1, 27 DM2, 28 DP2, 29 AGND_D1, 30 RREF, 31 AVDD_X, 32 AGND_X, 33 X1, 34 X2, 35 AVDD_D2, 36 AGND_D2, 37 DM3, 38 DP3, 39 AVDD_D3, 40 DM4, 41 DP4, 42 AGND_D3, 43 PORT27, 44 PGREEN4, 45 PORT26, 46 PAMBER4, 47 PORT25, 48 PWREN4, 49 PORT24, 50 PORT23, 51 OVCUR4J, 52 PGREEN3, 53 PAMBER3, 54 PORT22, 55 PWREN3, 56 PORT21, 57 PORT20, 58 OVCUR3J, 59 PORT07, 60 SPI_MOSI, 61 SPI_MISO, 62 SPI_CLK, 63 SPI_CS_, 64 PGREEN2, 65 DVDD12_1, 66 PORT06, 67 PORT05, 68 PAMBER2, 69 PORT04, 70 PWREN2, 71 PORT03, 72 PORT02, 73 OVCUR2J, 74 PORT01, 75 PORT00, 76 GND12, 77 VP12_PT4, 78 TXN_P4, 79 TXP_P4, 80 GND11, 81 VP12_R4, 82 RXN_P4, 83 RXP_P4, 84 GND10, 85 VP12_PT3, 86 TXN_P3, 87 TXP_P3, 88 GND9, 89 VP12_R3, 90 RXN_P3, 91 RXP_P3, 92 GND8, 93 VP33, 94 X2_25M, 95 X1_25M, 96 GND7, 97 VP12_TP2, 98 NC1, 99 TXN_P2, 100 TXP_P2, 101 GND6, 102 VP12_R2, 103 RXN_P2, 104 RXP_P2, 105 NC2, 106 GND5, 107 VP12_PT1, 108 TXN_P1, 109 TXP_P1, 110 GND4, 111 VP12_R1, 112 RXN_P1, 113 RXP_P1, 114 GND3, 115 VP12_PT0, 116 NC3, 117 TXN_P0, 118 TXP_P0, 119 NC4, 120 GND2, 121 VP12_R0, 122 NC5, 123 RXN_P0, 124 RXP_P0, 125 NC6, 126 GND1, 127 NC7, 128 NC8
text: GLI3520

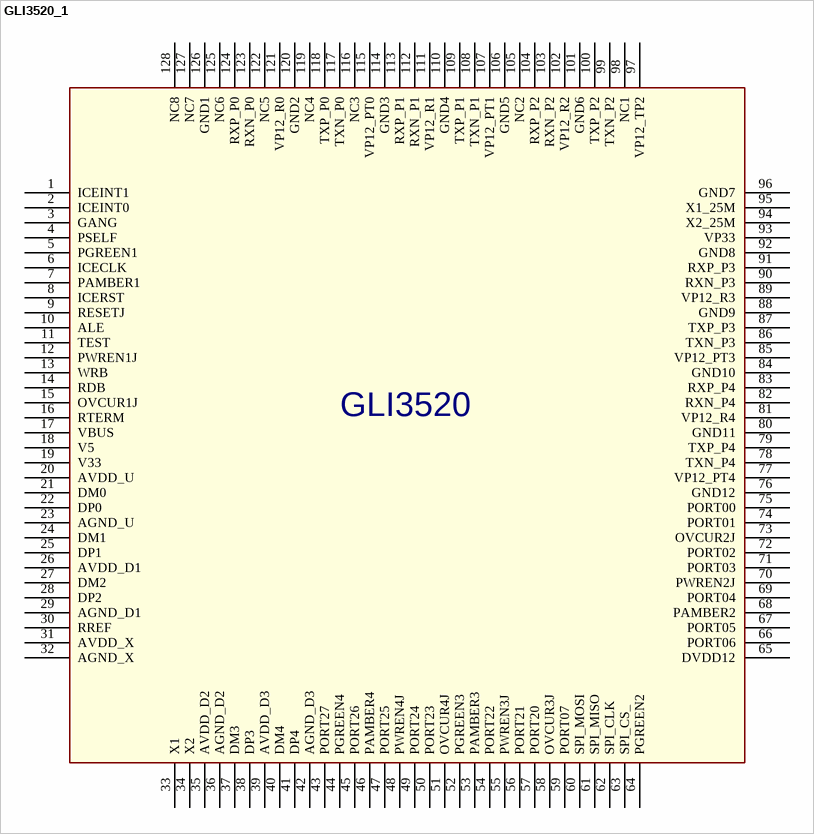
[diagram p8: symbol GLI3520_1]

## GLI3520_1
designator U?
pins: 1 ICEINT1, 2 ICEINT0, 3 GANG, 4 PSELF, 5 PGREEN1, 6 ICECLK, 7 PAMBER1, 8 ICERST, 9 RESETJ, 10 ALE, 11 TEST, 12 PWREN1J, 13 WRB, 14 RDB, 15 OVCUR1J, 16 RTERM, 17 VBUS, 18 V5, 19 V33, 20 AVDD_U, 21 DM0, 22 DP0, 23 AGND_U, 24 DM1, 25 DP1, 26 AVDD_D1, 27 DM2, 28 DP2, 29 AGND_D1, 30 RREF, 31 AVDD_X, 32 AGND_X, 33 X1, 34 X2, 35 AVDD_D2, 36 AGND_D2, 37 DM3, 38 DP3, 39 AVDD_D3, 40 DM4, 41 DP4, 42 AGND_D3, 43 PORT27, 44 PGREEN4, 45 PORT26, 46 PAMBER4, 47 PORT25, 48 PWREN4J, 49 PORT24, 50 PORT23, 51 OVCUR4J, 52 PGREEN3, 53 PAMBER3, 54 PORT22, 55 PWREN3J, 56 PORT21, 57 PORT20, 58 OVCUR3J, 59 PORT07, 60 SPI_MOSI, 61 SPI_MISO, 62 SPI_CLK, 63 SPI_CS_, 64 PGREEN2, 65 DVDD12, 66 PORT06, 67 PORT05, 68 PAMBER2, 69 PORT04, 70 PWREN2J, 71 PORT03, 72 PORT02, 73 OVCUR2J, 74 PORT01, 75 PORT00, 76 GND12, 77 VP12_PT4, 78 TXN_P4, 79 TXP_P4, 80 GND11, 81 VP12_R4, 82 RXN_P4, 83 RXP_P4, 84 GND10, 85 VP12_PT3, 86 TXN_P3, 87 TXP_P3, 88 GND9, 89 VP12_R3, 90 RXN_P3, 91 RXP_P3, 92 GND8, 93 VP33, 94 X2_25M, 95 X1_25M, 96 GND7, 97 VP12_TP2, 98 NC1, 99 TXN_P2, 100 TXP_P2, 101 GND6, 102 VP12_R2, 103 RXN_P2, 104 RXP_P2, 105 NC2, 106 GND5, 107 VP12_PT1, 108 TXN_P1, 109 TXP_P1, 110 GND4, 111 VP12_R1, 112 RXN_P1, 113 RXP_P1, 114 GND3, 115 VP12_PT0, 116 NC3, 117 TXN_P0, 118 TXP_P0, 119 NC4, 120 GND2, 121 VP12_R0, 122 NC5, 123 RXN_P0, 124 RXP_P0, 125 NC6, 126 GND1, 127 NC7, 128 NC8
text: GLI3520

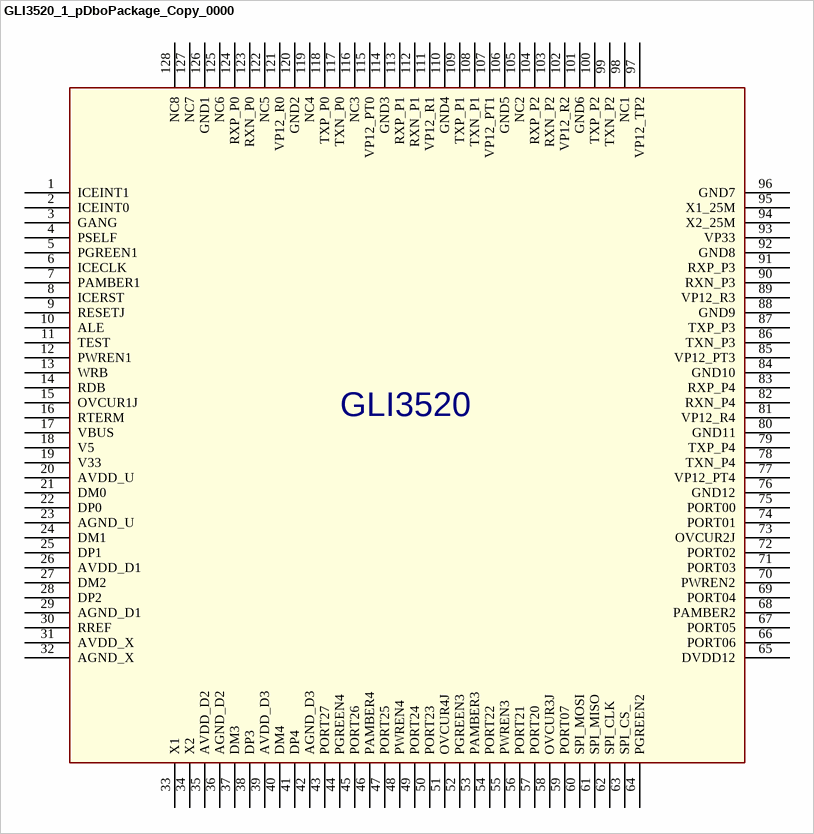
[diagram p9: symbol GLI3520_1_pDboPackage_Copy_0000]

## GLI3520_1_pDboPackage_Copy_0000
designator U?
pins: 1 ICEINT1, 2 ICEINT0, 3 GANG, 4 PSELF, 5 PGREEN1, 6 ICECLK, 7 PAMBER1, 8 ICERST, 9 RESETJ, 10 ALE, 11 TEST, 12 PWREN1, 13 WRB, 14 RDB, 15 OVCUR1J, 16 RTERM, 17 VBUS, 18 V5, 19 V33, 20 AVDD_U, 21 DM0, 22 DP0, 23 AGND_U, 24 DM1, 25 DP1, 26 AVDD_D1, 27 DM2, 28 DP2, 29 AGND_D1, 30 RREF, 31 AVDD_X, 32 AGND_X, 33 X1, 34 X2, 35 AVDD_D2, 36 AGND_D2, 37 DM3, 38 DP3, 39 AVDD_D3, 40 DM4, 41 DP4, 42 AGND_D3, 43 PORT27, 44 PGREEN4, 45 PORT26, 46 PAMBER4, 47 PORT25, 48 PWREN4, 49 PORT24, 50 PORT23, 51 OVCUR4J, 52 PGREEN3, 53 PAMBER3, 54 PORT22, 55 PWREN3, 56 PORT21, 57 PORT20, 58 OVCUR3J, 59 PORT07, 60 SPI_MOSI, 61 SPI_MISO, 62 SPI_CLK, 63 SPI_CS_, 64 PGREEN2, 65 DVDD12, 66 PORT06, 67 PORT05, 68 PAMBER2, 69 PORT04, 70 PWREN2, 71 PORT03, 72 PORT02, 73 OVCUR2J, 74 PORT01, 75 PORT00, 76 GND12, 77 VP12_PT4, 78 TXN_P4, 79 TXP_P4, 80 GND11, 81 VP12_R4, 82 RXN_P4, 83 RXP_P4, 84 GND10, 85 VP12_PT3, 86 TXN_P3, 87 TXP_P3, 88 GND9, 89 VP12_R3, 90 RXN_P3, 91 RXP_P3, 92 GND8, 93 VP33, 94 X2_25M, 95 X1_25M, 96 GND7, 97 VP12_TP2, 98 NC1, 99 TXN_P2, 100 TXP_P2, 101 GND6, 102 VP12_R2, 103 RXN_P2, 104 RXP_P2, 105 NC2, 106 GND5, 107 VP12_PT1, 108 TXN_P1, 109 TXP_P1, 110 GND4, 111 VP12_R1, 112 RXN_P1, 113 RXP_P1, 114 GND3, 115 VP12_PT0, 116 NC3, 117 TXN_P0, 118 TXP_P0, 119 NC4, 120 GND2, 121 VP12_R0, 122 NC5, 123 RXN_P0, 124 RXP_P0, 125 NC6, 126 GND1, 127 NC7, 128 NC8
text: GLI3520

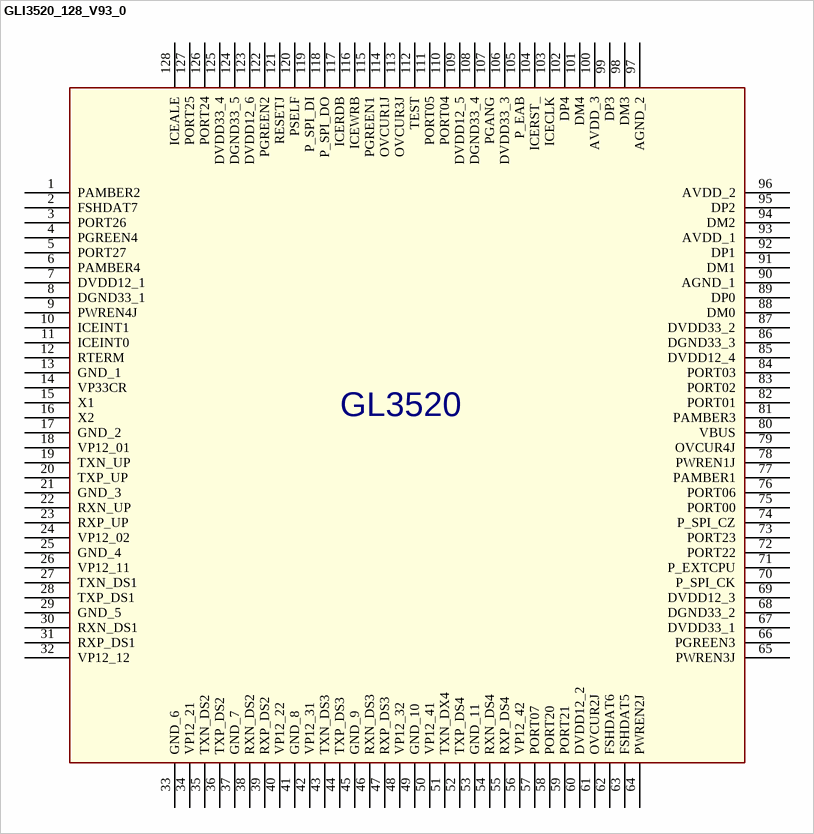
[diagram p10: symbol GLI3520_128_V93_0]

## GLI3520_128_V93_0
designator U?
footprint I-LQFP128-0_4A
pins: 1 PAMBER2, 2 FSHDAT7, 3 PORT26, 4 PGREEN4, 5 PORT27, 6 PAMBER4, 7 DVDD12_1, 8 DGND33_1, 9 PWREN4J, 10 ICEINT1, 11 ICEINT0, 12 RTERM, 13 GND_1, 14 VP33CR, 15 X1, 16 X2, 17 GND_2, 18 VP12_01, 19 TXN_UP, 20 TXP_UP, 21 GND_3, 22 RXN_UP, 23 RXP_UP, 24 VP12_02, 25 GND_4, 26 VP12_11, 27 TXN_DS1, 28 TXP_DS1, 29 GND_5, 30 RXN_DS1, 31 RXP_DS1, 32 VP12_12, 33 GND_6, 34 VP12_21, 35 TXN_DS2, 36 TXP_DS2, 37 GND_7, 38 RXN_DS2, 39 RXP_DS2, 40 VP12_22, 41 GND_8, 42 VP12_31, 43 TXN_DS3, 44 TXP_DS3, 45 GND_9, 46 RXN_DS3, 47 RXP_DS3, 48 VP12_32, 49 GND_10, 50 VP12_41, 51 TXN_DX4, 52 TXP_DS4, 53 GND_11, 54 RXN_DS4, 55 RXP_DS4, 56 VP12_42, 57 PORT07, 58 PORT20, 59 PORT21, 60 DVDD12_2, 61 OVCUR2J, 62 FSHDAT6, 63 FSHDAT5, 64 PWREN2J, 65 PWREN3J, 66 PGREEN3, 67 DVDD33_1, 68 DGND33_2, 69 DVDD12_3, 70 P_SPI_CK, 71 P_EXTCPU, 72 PORT22, 73 PORT23, 74 P_SPI_CZ, 75 PORT00, 76 PORT06, 77 PAMBER1, 78 PWREN1J, 79 OVCUR4J, 80 VBUS, 81 PAMBER3, 82 PORT01, 83 PORT02, 84 PORT03, 85 DVDD12_4, 86 DGND33_3, 87 DVDD33_2, 88 DM0, 89 DP0, 90 AGND_1, 91 DM1, 92 DP1, 93 AVDD_1, 94 DM2, 95 DP2, 96 AVDD_2, 97 AGND_2, 98 DM3, 99 DP3, 100 AVDD_3, 101 DM4, 102 DP4, 103 ICECLK, 104 ICERST_, 105 P_EAB, 106 DVDD33_3, 107 PGANG, 108 DGND33_4, 109 DVDD12_5, 110 PORT04, 111 PORT05, 112 TEST, 113 OVCUR3J, 114 OVCUR1J, 115 PGREEN1, 116 ICEWRB, 117 ICERDB, 118 P_SPI_DO, 119 P_SPI_DI, 120 PSELF, 121 RESETJ, 122 PGREEN2, 123 DVDD12_6, 124 DGND33_5, 125 DVDD33_4, 126 PORT24, 127 PORT25, 128 ICEALE
text: GL3520

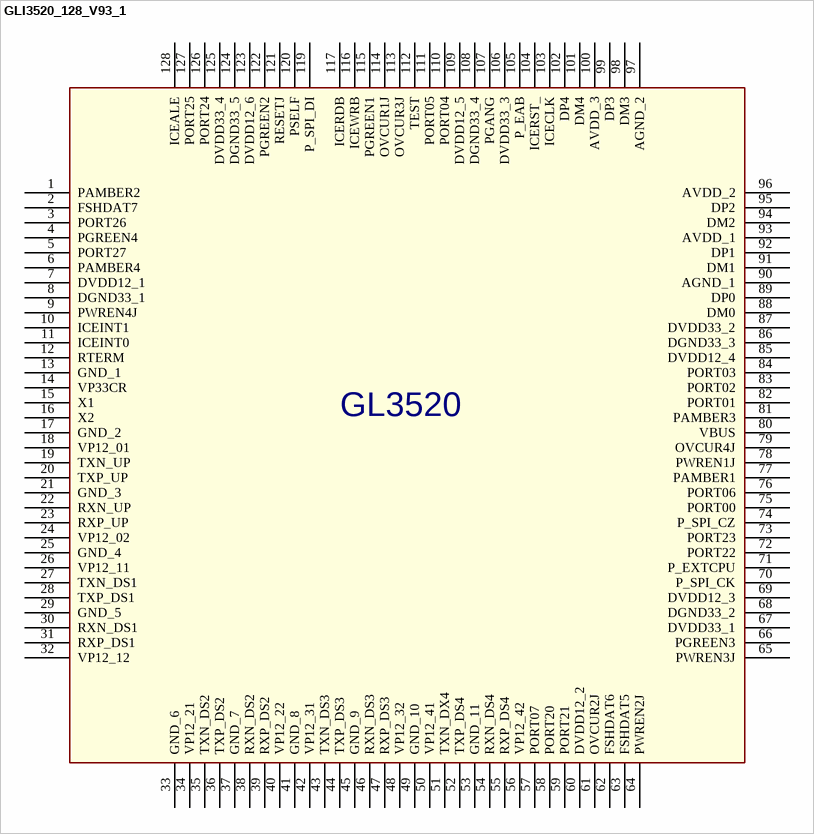
[diagram p11: symbol GLI3520_128_V93_1]

## GLI3520_128_V93_1
designator U?
footprint I-LQFP128-0_4A
pins: 1 PAMBER2, 2 FSHDAT7, 3 PORT26, 4 PGREEN4, 5 PORT27, 6 PAMBER4, 7 DVDD12_1, 8 DGND33_1, 9 PWREN4J, 10 ICEINT1, 11 ICEINT0, 12 RTERM, 13 GND_1, 14 VP33CR, 15 X1, 16 X2, 17 GND_2, 18 VP12_01, 19 TXN_UP, 20 TXP_UP, 21 GND_3, 22 RXN_UP, 23 RXP_UP, 24 VP12_02, 25 GND_4, 26 VP12_11, 27 TXN_DS1, 28 TXP_DS1, 29 GND_5, 30 RXN_DS1, 31 RXP_DS1, 32 VP12_12, 33 GND_6, 34 VP12_21, 35 TXN_DS2, 36 TXP_DS2, 37 GND_7, 38 RXN_DS2, 39 RXP_DS2, 40 VP12_22, 41 GND_8, 42 VP12_31, 43 TXN_DS3, 44 TXP_DS3, 45 GND_9, 46 RXN_DS3, 47 RXP_DS3, 48 VP12_32, 49 GND_10, 50 VP12_41, 51 TXN_DX4, 52 TXP_DS4, 53 GND_11, 54 RXN_DS4, 55 RXP_DS4, 56 VP12_42, 57 PORT07, 58 PORT20, 59 PORT21, 60 DVDD12_2, 61 OVCUR2J, 62 FSHDAT6, 63 FSHDAT5, 64 PWREN2J, 65 PWREN3J, 66 PGREEN3, 67 DVDD33_1, 68 DGND33_2, 69 DVDD12_3, 70 P_SPI_CK, 71 P_EXTCPU, 72 PORT22, 73 PORT23, 74 P_SPI_CZ, 75 PORT00, 76 PORT06, 77 PAMBER1, 78 PWREN1J, 79 OVCUR4J, 80 VBUS, 81 PAMBER3, 82 PORT01, 83 PORT02, 84 PORT03, 85 DVDD12_4, 86 DGND33_3, 87 DVDD33_2, 88 DM0, 89 DP0, 90 AGND_1, 91 DM1, 92 DP1, 93 AVDD_1, 94 DM2, 95 DP2, 96 AVDD_2, 97 AGND_2, 98 DM3, 99 DP3, 100 AVDD_3, 101 DM4, 102 DP4, 103 ICECLK, 104 ICERST_, 105 P_EAB, 106 DVDD33_3, 107 PGANG, 108 DGND33_4, 109 DVDD12_5, 110 PORT04, 111 PORT05, 112 TEST, 113 OVCUR3J, 114 OVCUR1J, 115 PGREEN1, 116 ICEWRB, 117 ICERDB, 119 P_SPI_DI, 120 PSELF, 121 RESETJ, 122 PGREEN2, 123 DVDD12_6, 124 DGND33_5, 125 DVDD33_4, 126 PORT24, 127 PORT25, 128 ICEALE
text: GL3520

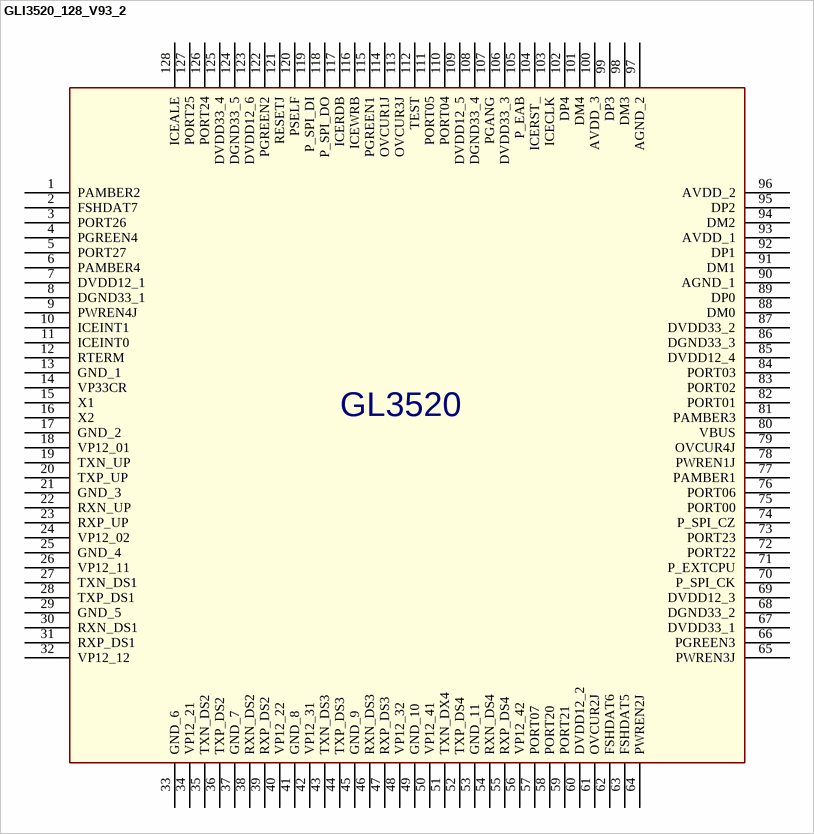
[diagram p12: symbol GLI3520_128_V93_2]

## GLI3520_128_V93_2
designator U?
footprint I-LQFP128-0_4A
pins: 1 PAMBER2, 2 FSHDAT7, 3 PORT26, 4 PGREEN4, 5 PORT27, 6 PAMBER4, 7 DVDD12_1, 8 DGND33_1, 9 PWREN4J, 10 ICEINT1, 11 ICEINT0, 12 RTERM, 13 GND_1, 14 VP33CR, 15 X1, 16 X2, 17 GND_2, 18 VP12_01, 19 TXN_UP, 20 TXP_UP, 21 GND_3, 22 RXN_UP, 23 RXP_UP, 24 VP12_02, 25 GND_4, 26 VP12_11, 27 TXN_DS1, 28 TXP_DS1, 29 GND_5, 30 RXN_DS1, 31 RXP_DS1, 32 VP12_12, 33 GND_6, 34 VP12_21, 35 TXN_DS2, 36 TXP_DS2, 37 GND_7, 38 RXN_DS2, 39 RXP_DS2, 40 VP12_22, 41 GND_8, 42 VP12_31, 43 TXN_DS3, 44 TXP_DS3, 45 GND_9, 46 RXN_DS3, 47 RXP_DS3, 48 VP12_32, 49 GND_10, 50 VP12_41, 51 TXN_DX4, 52 TXP_DS4, 53 GND_11, 54 RXN_DS4, 55 RXP_DS4, 56 VP12_42, 57 PORT07, 58 PORT20, 59 PORT21, 60 DVDD12_2, 61 OVCUR2J, 62 FSHDAT6, 63 FSHDAT5, 64 PWREN2J, 65 PWREN3J, 66 PGREEN3, 67 DVDD33_1, 68 DGND33_2, 69 DVDD12_3, 70 P_SPI_CK, 71 P_EXTCPU, 72 PORT22, 73 PORT23, 74 P_SPI_CZ, 75 PORT00, 76 PORT06, 77 PAMBER1, 78 PWREN1J, 79 OVCUR4J, 80 VBUS, 81 PAMBER3, 82 PORT01, 83 PORT02, 84 PORT03, 85 DVDD12_4, 86 DGND33_3, 87 DVDD33_2, 88 DM0, 89 DP0, 90 AGND_1, 91 DM1, 92 DP1, 93 AVDD_1, 94 DM2, 95 DP2, 96 AVDD_2, 97 AGND_2, 98 DM3, 99 DP3, 100 AVDD_3, 101 DM4, 102 DP4, 103 ICECLK, 104 ICERST_, 105 P_EAB, 106 DVDD33_3, 107 PGANG, 108 DGND33_4, 109 DVDD12_5, 110 PORT04, 111 PORT05, 112 TEST, 113 OVCUR3J, 114 OVCUR1J, 115 PGREEN1, 116 ICEWRB, 117 ICERDB, 118 P_SPI_DO, 119 P_SPI_DI, 120 PSELF, 121 RESETJ, 122 PGREEN2, 123 DVDD12_6, 124 DGND33_5, 125 DVDD33_4, 126 PORT24, 127 PORT25, 128 ICEALE
text: GL3520

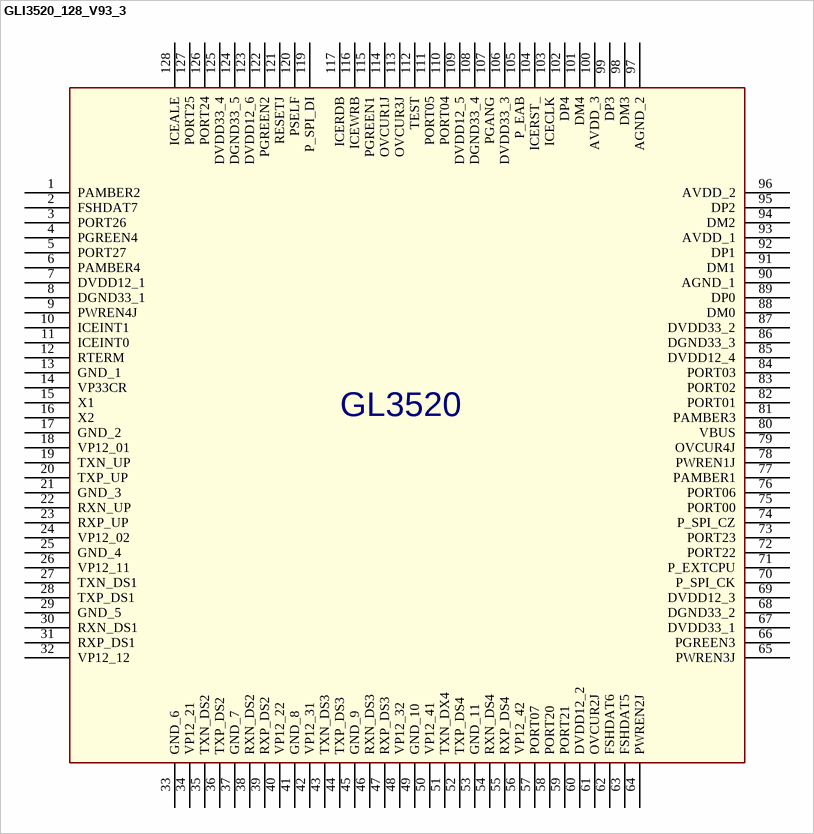
[diagram p13: symbol GLI3520_128_V93_3]

## GLI3520_128_V93_3
designator U?
footprint I-LQFP128-0_4A
pins: 1 PAMBER2, 2 FSHDAT7, 3 PORT26, 4 PGREEN4, 5 PORT27, 6 PAMBER4, 7 DVDD12_1, 8 DGND33_1, 9 PWREN4J, 10 ICEINT1, 11 ICEINT0, 12 RTERM, 13 GND_1, 14 VP33CR, 15 X1, 16 X2, 17 GND_2, 18 VP12_01, 19 TXN_UP, 20 TXP_UP, 21 GND_3, 22 RXN_UP, 23 RXP_UP, 24 VP12_02, 25 GND_4, 26 VP12_11, 27 TXN_DS1, 28 TXP_DS1, 29 GND_5, 30 RXN_DS1, 31 RXP_DS1, 32 VP12_12, 33 GND_6, 34 VP12_21, 35 TXN_DS2, 36 TXP_DS2, 37 GND_7, 38 RXN_DS2, 39 RXP_DS2, 40 VP12_22, 41 GND_8, 42 VP12_31, 43 TXN_DS3, 44 TXP_DS3, 45 GND_9, 46 RXN_DS3, 47 RXP_DS3, 48 VP12_32, 49 GND_10, 50 VP12_41, 51 TXN_DX4, 52 TXP_DS4, 53 GND_11, 54 RXN_DS4, 55 RXP_DS4, 56 VP12_42, 57 PORT07, 58 PORT20, 59 PORT21, 60 DVDD12_2, 61 OVCUR2J, 62 FSHDAT6, 63 FSHDAT5, 64 PWREN2J, 65 PWREN3J, 66 PGREEN3, 67 DVDD33_1, 68 DGND33_2, 69 DVDD12_3, 70 P_SPI_CK, 71 P_EXTCPU, 72 PORT22, 73 PORT23, 74 P_SPI_CZ, 75 PORT00, 76 PORT06, 77 PAMBER1, 78 PWREN1J, 79 OVCUR4J, 80 VBUS, 81 PAMBER3, 82 PORT01, 83 PORT02, 84 PORT03, 85 DVDD12_4, 86 DGND33_3, 87 DVDD33_2, 88 DM0, 89 DP0, 90 AGND_1, 91 DM1, 92 DP1, 93 AVDD_1, 94 DM2, 95 DP2, 96 AVDD_2, 97 AGND_2, 98 DM3, 99 DP3, 100 AVDD_3, 101 DM4, 102 DP4, 103 ICECLK, 104 ICERST_, 105 P_EAB, 106 DVDD33_3, 107 PGANG, 108 DGND33_4, 109 DVDD12_5, 110 PORT04, 111 PORT05, 112 TEST, 113 OVCUR3J, 114 OVCUR1J, 115 PGREEN1, 116 ICEWRB, 117 ICERDB, 119 P_SPI_DI, 120 PSELF, 121 RESETJ, 122 PGREEN2, 123 DVDD12_6, 124 DGND33_5, 125 DVDD33_4, 126 PORT24, 127 PORT25, 128 ICEALE
text: GL3520

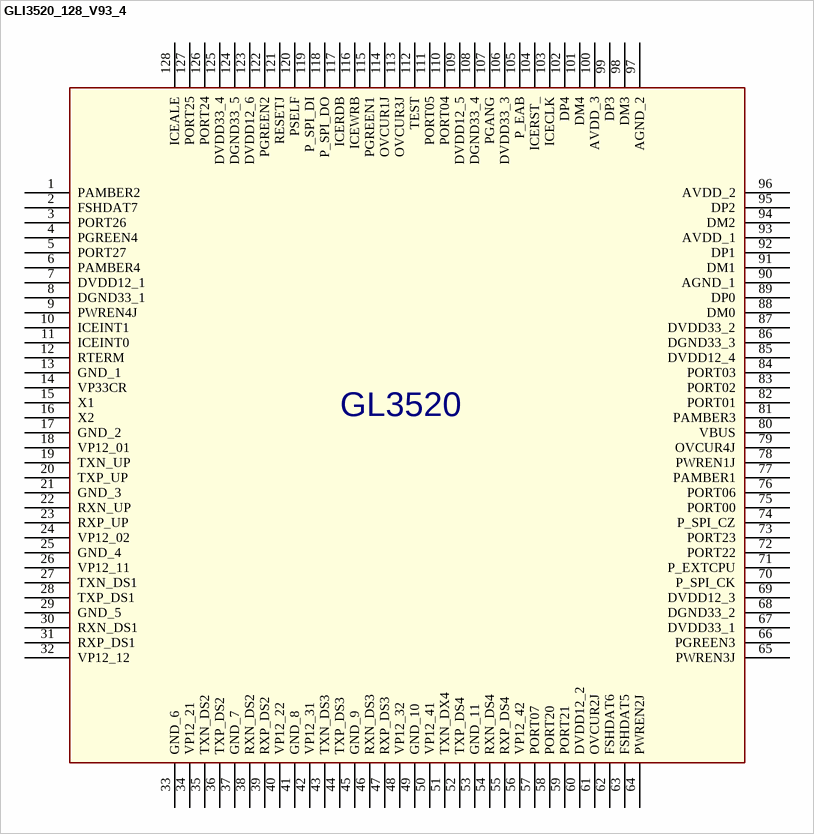
[diagram p14: symbol GLI3520_128_V93_4]

## GLI3520_128_V93_4
designator U?
footprint I-LQFP128-0_4A
pins: 1 PAMBER2, 2 FSHDAT7, 3 PORT26, 4 PGREEN4, 5 PORT27, 6 PAMBER4, 7 DVDD12_1, 8 DGND33_1, 9 PWREN4J, 10 ICEINT1, 11 ICEINT0, 12 RTERM, 13 GND_1, 14 VP33CR, 15 X1, 16 X2, 17 GND_2, 18 VP12_01, 19 TXN_UP, 20 TXP_UP, 21 GND_3, 22 RXN_UP, 23 RXP_UP, 24 VP12_02, 25 GND_4, 26 VP12_11, 27 TXN_DS1, 28 TXP_DS1, 29 GND_5, 30 RXN_DS1, 31 RXP_DS1, 32 VP12_12, 33 GND_6, 34 VP12_21, 35 TXN_DS2, 36 TXP_DS2, 37 GND_7, 38 RXN_DS2, 39 RXP_DS2, 40 VP12_22, 41 GND_8, 42 VP12_31, 43 TXN_DS3, 44 TXP_DS3, 45 GND_9, 46 RXN_DS3, 47 RXP_DS3, 48 VP12_32, 49 GND_10, 50 VP12_41, 51 TXN_DX4, 52 TXP_DS4, 53 GND_11, 54 RXN_DS4, 55 RXP_DS4, 56 VP12_42, 57 PORT07, 58 PORT20, 59 PORT21, 60 DVDD12_2, 61 OVCUR2J, 62 FSHDAT6, 63 FSHDAT5, 64 PWREN2J, 65 PWREN3J, 66 PGREEN3, 67 DVDD33_1, 68 DGND33_2, 69 DVDD12_3, 70 P_SPI_CK, 71 P_EXTCPU, 72 PORT22, 73 PORT23, 74 P_SPI_CZ, 75 PORT00, 76 PORT06, 77 PAMBER1, 78 PWREN1J, 79 OVCUR4J, 80 VBUS, 81 PAMBER3, 82 PORT01, 83 PORT02, 84 PORT03, 85 DVDD12_4, 86 DGND33_3, 87 DVDD33_2, 88 DM0, 89 DP0, 90 AGND_1, 91 DM1, 92 DP1, 93 AVDD_1, 94 DM2, 95 DP2, 96 AVDD_2, 97 AGND_2, 98 DM3, 99 DP3, 100 AVDD_3, 101 DM4, 102 DP4, 103 ICECLK, 104 ICERST_, 105 P_EAB, 106 DVDD33_3, 107 PGANG, 108 DGND33_4, 109 DVDD12_5, 110 PORT04, 111 PORT05, 112 TEST, 113 OVCUR3J, 114 OVCUR1J, 115 PGREEN1, 116 ICEWRB, 117 ICERDB, 118 P_SPI_DO, 119 P_SPI_DI, 120 PSELF, 121 RESETJ, 122 PGREEN2, 123 DVDD12_6, 124 DGND33_5, 125 DVDD33_4, 126 PORT24, 127 PORT25, 128 ICEALE
text: GL3520

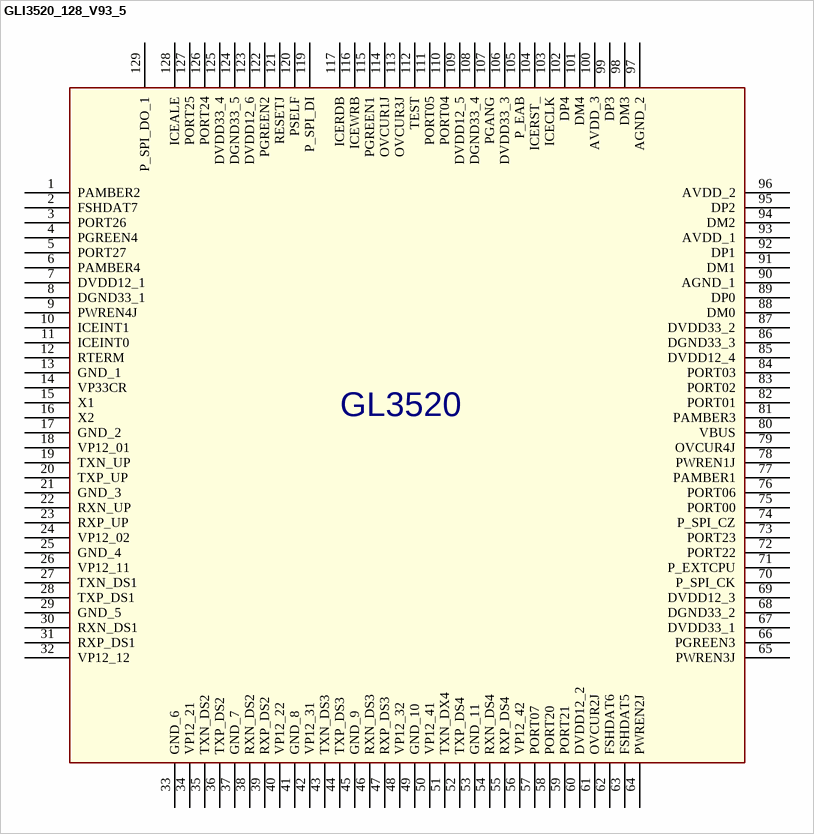
[diagram p15: symbol GLI3520_128_V93_5]

## GLI3520_128_V93_5
designator U?
footprint I-LQFP128-0_4A
pins: 1 PAMBER2, 2 FSHDAT7, 3 PORT26, 4 PGREEN4, 5 PORT27, 6 PAMBER4, 7 DVDD12_1, 8 DGND33_1, 9 PWREN4J, 10 ICEINT1, 11 ICEINT0, 12 RTERM, 13 GND_1, 14 VP33CR, 15 X1, 16 X2, 17 GND_2, 18 VP12_01, 19 TXN_UP, 20 TXP_UP, 21 GND_3, 22 RXN_UP, 23 RXP_UP, 24 VP12_02, 25 GND_4, 26 VP12_11, 27 TXN_DS1, 28 TXP_DS1, 29 GND_5, 30 RXN_DS1, 31 RXP_DS1, 32 VP12_12, 33 GND_6, 34 VP12_21, 35 TXN_DS2, 36 TXP_DS2, 37 GND_7, 38 RXN_DS2, 39 RXP_DS2, 40 VP12_22, 41 GND_8, 42 VP12_31, 43 TXN_DS3, 44 TXP_DS3, 45 GND_9, 46 RXN_DS3, 47 RXP_DS3, 48 VP12_32, 49 GND_10, 50 VP12_41, 51 TXN_DX4, 52 TXP_DS4, 53 GND_11, 54 RXN_DS4, 55 RXP_DS4, 56 VP12_42, 57 PORT07, 58 PORT20, 59 PORT21, 60 DVDD12_2, 61 OVCUR2J, 62 FSHDAT6, 63 FSHDAT5, 64 PWREN2J, 65 PWREN3J, 66 PGREEN3, 67 DVDD33_1, 68 DGND33_2, 69 DVDD12_3, 70 P_SPI_CK, 71 P_EXTCPU, 72 PORT22, 73 PORT23, 74 P_SPI_CZ, 75 PORT00, 76 PORT06, 77 PAMBER1, 78 PWREN1J, 79 OVCUR4J, 80 VBUS, 81 PAMBER3, 82 PORT01, 83 PORT02, 84 PORT03, 85 DVDD12_4, 86 DGND33_3, 87 DVDD33_2, 88 DM0, 89 DP0, 90 AGND_1, 91 DM1, 92 DP1, 93 AVDD_1, 94 DM2, 95 DP2, 96 AVDD_2, 97 AGND_2, 98 DM3, 99 DP3, 100 AVDD_3, 101 DM4, 102 DP4, 103 ICECLK, 104 ICERST_, 105 P_EAB, 106 DVDD33_3, 107 PGANG, 108 DGND33_4, 109 DVDD12_5, 110 PORT04, 111 PORT05, 112 TEST, 113 OVCUR3J, 114 OVCUR1J, 115 PGREEN1, 116 ICEWRB, 117 ICERDB, 119 P_SPI_DI, 120 PSELF, 121 RESETJ, 122 PGREEN2, 123 DVDD12_6, 124 DGND33_5, 125 DVDD33_4, 126 PORT24, 127 PORT25, 128 ICEALE, 129 P_SPI_DO_1
text: GL3520

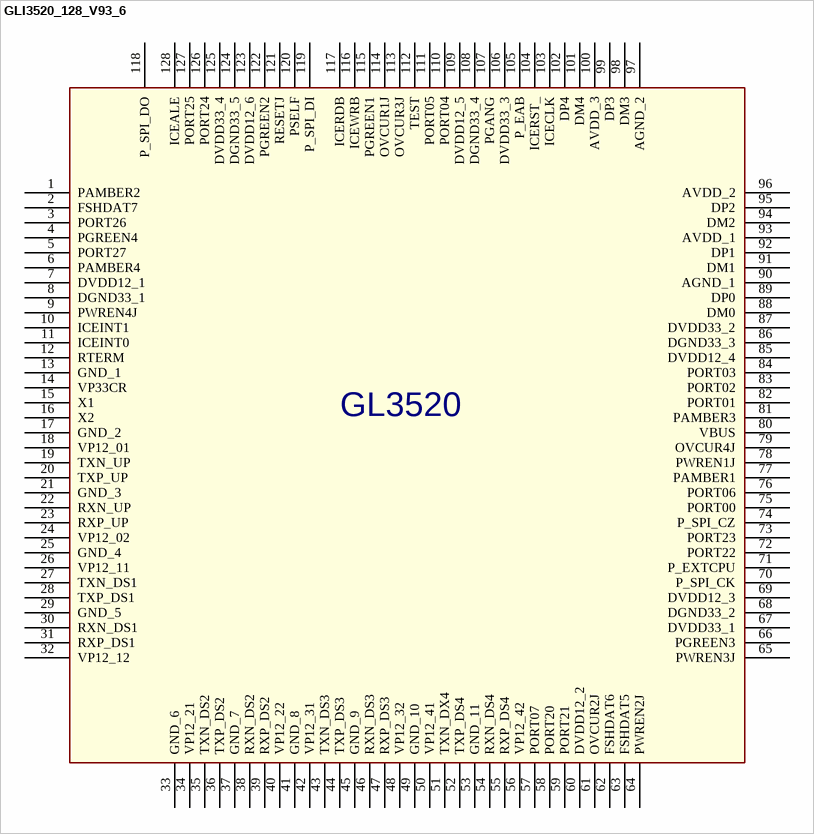
[diagram p16: symbol GLI3520_128_V93_6]

## GLI3520_128_V93_6
designator U?
footprint I-LQFP128-0_4A
pins: 1 PAMBER2, 2 FSHDAT7, 3 PORT26, 4 PGREEN4, 5 PORT27, 6 PAMBER4, 7 DVDD12_1, 8 DGND33_1, 9 PWREN4J, 10 ICEINT1, 11 ICEINT0, 12 RTERM, 13 GND_1, 14 VP33CR, 15 X1, 16 X2, 17 GND_2, 18 VP12_01, 19 TXN_UP, 20 TXP_UP, 21 GND_3, 22 RXN_UP, 23 RXP_UP, 24 VP12_02, 25 GND_4, 26 VP12_11, 27 TXN_DS1, 28 TXP_DS1, 29 GND_5, 30 RXN_DS1, 31 RXP_DS1, 32 VP12_12, 33 GND_6, 34 VP12_21, 35 TXN_DS2, 36 TXP_DS2, 37 GND_7, 38 RXN_DS2, 39 RXP_DS2, 40 VP12_22, 41 GND_8, 42 VP12_31, 43 TXN_DS3, 44 TXP_DS3, 45 GND_9, 46 RXN_DS3, 47 RXP_DS3, 48 VP12_32, 49 GND_10, 50 VP12_41, 51 TXN_DX4, 52 TXP_DS4, 53 GND_11, 54 RXN_DS4, 55 RXP_DS4, 56 VP12_42, 57 PORT07, 58 PORT20, 59 PORT21, 60 DVDD12_2, 61 OVCUR2J, 62 FSHDAT6, 63 FSHDAT5, 64 PWREN2J, 65 PWREN3J, 66 PGREEN3, 67 DVDD33_1, 68 DGND33_2, 69 DVDD12_3, 70 P_SPI_CK, 71 P_EXTCPU, 72 PORT22, 73 PORT23, 74 P_SPI_CZ, 75 PORT00, 76 PORT06, 77 PAMBER1, 78 PWREN1J, 79 OVCUR4J, 80 VBUS, 81 PAMBER3, 82 PORT01, 83 PORT02, 84 PORT03, 85 DVDD12_4, 86 DGND33_3, 87 DVDD33_2, 88 DM0, 89 DP0, 90 AGND_1, 91 DM1, 92 DP1, 93 AVDD_1, 94 DM2, 95 DP2, 96 AVDD_2, 97 AGND_2, 98 DM3, 99 DP3, 100 AVDD_3, 101 DM4, 102 DP4, 103 ICECLK, 104 ICERST_, 105 P_EAB, 106 DVDD33_3, 107 PGANG, 108 DGND33_4, 109 DVDD12_5, 110 PORT04, 111 PORT05, 112 TEST, 113 OVCUR3J, 114 OVCUR1J, 115 PGREEN1, 116 ICEWRB, 117 ICERDB, 118 P_SPI_DO, 119 P_SPI_DI, 120 PSELF, 121 RESETJ, 122 PGREEN2, 123 DVDD12_6, 124 DGND33_5, 125 DVDD33_4, 126 PORT24, 127 PORT25, 128 ICEALE
text: GL3520

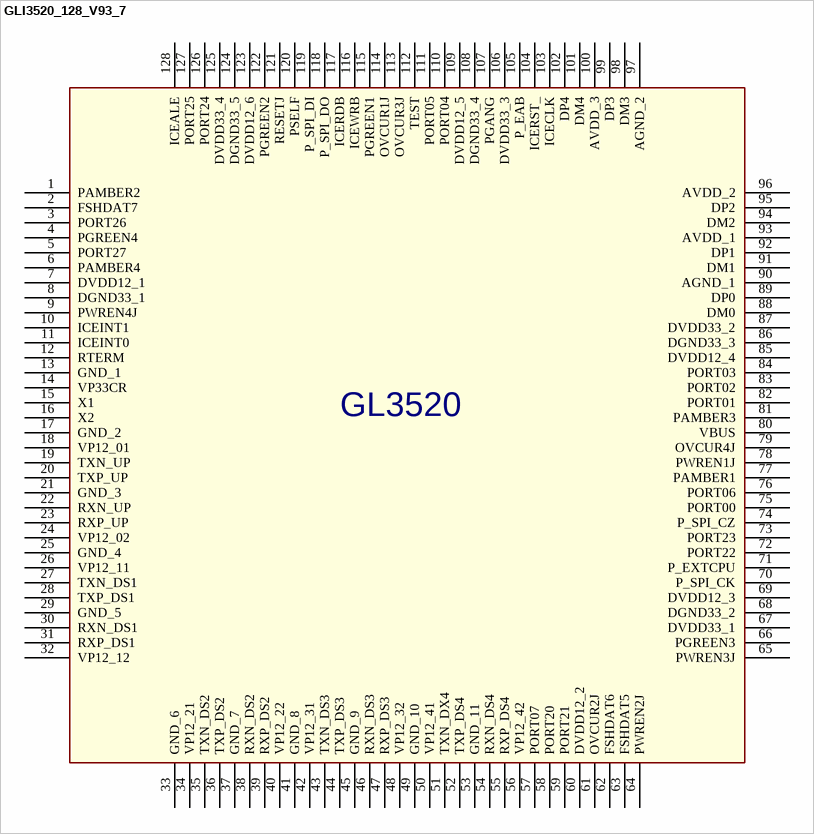
[diagram p17: symbol GLI3520_128_V93_7]

## GLI3520_128_V93_7
designator U?
footprint I-LQFP128-0_4A
pins: 1 PAMBER2, 2 FSHDAT7, 3 PORT26, 4 PGREEN4, 5 PORT27, 6 PAMBER4, 7 DVDD12_1, 8 DGND33_1, 9 PWREN4J, 10 ICEINT1, 11 ICEINT0, 12 RTERM, 13 GND_1, 14 VP33CR, 15 X1, 16 X2, 17 GND_2, 18 VP12_01, 19 TXN_UP, 20 TXP_UP, 21 GND_3, 22 RXN_UP, 23 RXP_UP, 24 VP12_02, 25 GND_4, 26 VP12_11, 27 TXN_DS1, 28 TXP_DS1, 29 GND_5, 30 RXN_DS1, 31 RXP_DS1, 32 VP12_12, 33 GND_6, 34 VP12_21, 35 TXN_DS2, 36 TXP_DS2, 37 GND_7, 38 RXN_DS2, 39 RXP_DS2, 40 VP12_22, 41 GND_8, 42 VP12_31, 43 TXN_DS3, 44 TXP_DS3, 45 GND_9, 46 RXN_DS3, 47 RXP_DS3, 48 VP12_32, 49 GND_10, 50 VP12_41, 51 TXN_DX4, 52 TXP_DS4, 53 GND_11, 54 RXN_DS4, 55 RXP_DS4, 56 VP12_42, 57 PORT07, 58 PORT20, 59 PORT21, 60 DVDD12_2, 61 OVCUR2J, 62 FSHDAT6, 63 FSHDAT5, 64 PWREN2J, 65 PWREN3J, 66 PGREEN3, 67 DVDD33_1, 68 DGND33_2, 69 DVDD12_3, 70 P_SPI_CK, 71 P_EXTCPU, 72 PORT22, 73 PORT23, 74 P_SPI_CZ, 75 PORT00, 76 PORT06, 77 PAMBER1, 78 PWREN1J, 79 OVCUR4J, 80 VBUS, 81 PAMBER3, 82 PORT01, 83 PORT02, 84 PORT03, 85 DVDD12_4, 86 DGND33_3, 87 DVDD33_2, 88 DM0, 89 DP0, 90 AGND_1, 91 DM1, 92 DP1, 93 AVDD_1, 94 DM2, 95 DP2, 96 AVDD_2, 97 AGND_2, 98 DM3, 99 DP3, 100 AVDD_3, 101 DM4, 102 DP4, 103 ICECLK, 104 ICERST_, 105 P_EAB, 106 DVDD33_3, 107 PGANG, 108 DGND33_4, 109 DVDD12_5, 110 PORT04, 111 PORT05, 112 TEST, 113 OVCUR3J, 114 OVCUR1J, 115 PGREEN1, 116 ICEWRB, 117 ICERDB, 118 P_SPI_DO, 119 P_SPI_DI, 120 PSELF, 121 RESETJ, 122 PGREEN2, 123 DVDD12_6, 124 DGND33_5, 125 DVDD33_4, 126 PORT24, 127 PORT25, 128 ICEALE
text: GL3520

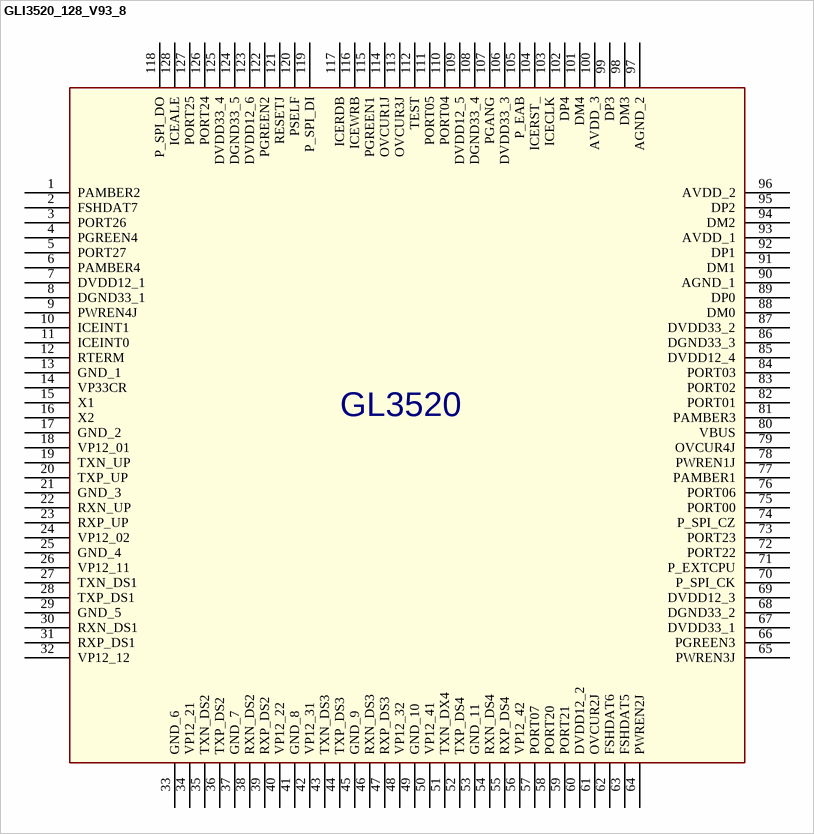
[diagram p18: symbol GLI3520_128_V93_8]

## GLI3520_128_V93_8
designator U?
footprint I-LQFP128-0_4A
pins: 1 PAMBER2, 2 FSHDAT7, 3 PORT26, 4 PGREEN4, 5 PORT27, 6 PAMBER4, 7 DVDD12_1, 8 DGND33_1, 9 PWREN4J, 10 ICEINT1, 11 ICEINT0, 12 RTERM, 13 GND_1, 14 VP33CR, 15 X1, 16 X2, 17 GND_2, 18 VP12_01, 19 TXN_UP, 20 TXP_UP, 21 GND_3, 22 RXN_UP, 23 RXP_UP, 24 VP12_02, 25 GND_4, 26 VP12_11, 27 TXN_DS1, 28 TXP_DS1, 29 GND_5, 30 RXN_DS1, 31 RXP_DS1, 32 VP12_12, 33 GND_6, 34 VP12_21, 35 TXN_DS2, 36 TXP_DS2, 37 GND_7, 38 RXN_DS2, 39 RXP_DS2, 40 VP12_22, 41 GND_8, 42 VP12_31, 43 TXN_DS3, 44 TXP_DS3, 45 GND_9, 46 RXN_DS3, 47 RXP_DS3, 48 VP12_32, 49 GND_10, 50 VP12_41, 51 TXN_DX4, 52 TXP_DS4, 53 GND_11, 54 RXN_DS4, 55 RXP_DS4, 56 VP12_42, 57 PORT07, 58 PORT20, 59 PORT21, 60 DVDD12_2, 61 OVCUR2J, 62 FSHDAT6, 63 FSHDAT5, 64 PWREN2J, 65 PWREN3J, 66 PGREEN3, 67 DVDD33_1, 68 DGND33_2, 69 DVDD12_3, 70 P_SPI_CK, 71 P_EXTCPU, 72 PORT22, 73 PORT23, 74 P_SPI_CZ, 75 PORT00, 76 PORT06, 77 PAMBER1, 78 PWREN1J, 79 OVCUR4J, 80 VBUS, 81 PAMBER3, 82 PORT01, 83 PORT02, 84 PORT03, 85 DVDD12_4, 86 DGND33_3, 87 DVDD33_2, 88 DM0, 89 DP0, 90 AGND_1, 91 DM1, 92 DP1, 93 AVDD_1, 94 DM2, 95 DP2, 96 AVDD_2, 97 AGND_2, 98 DM3, 99 DP3, 100 AVDD_3, 101 DM4, 102 DP4, 103 ICECLK, 104 ICERST_, 105 P_EAB, 106 DVDD33_3, 107 PGANG, 108 DGND33_4, 109 DVDD12_5, 110 PORT04, 111 PORT05, 112 TEST, 113 OVCUR3J, 114 OVCUR1J, 115 PGREEN1, 116 ICEWRB, 117 ICERDB, 118 P_SPI_DO, 119 P_SPI_DI, 120 PSELF, 121 RESETJ, 122 PGREEN2, 123 DVDD12_6, 124 DGND33_5, 125 DVDD33_4, 126 PORT24, 127 PORT25, 128 ICEALE
text: GL3520

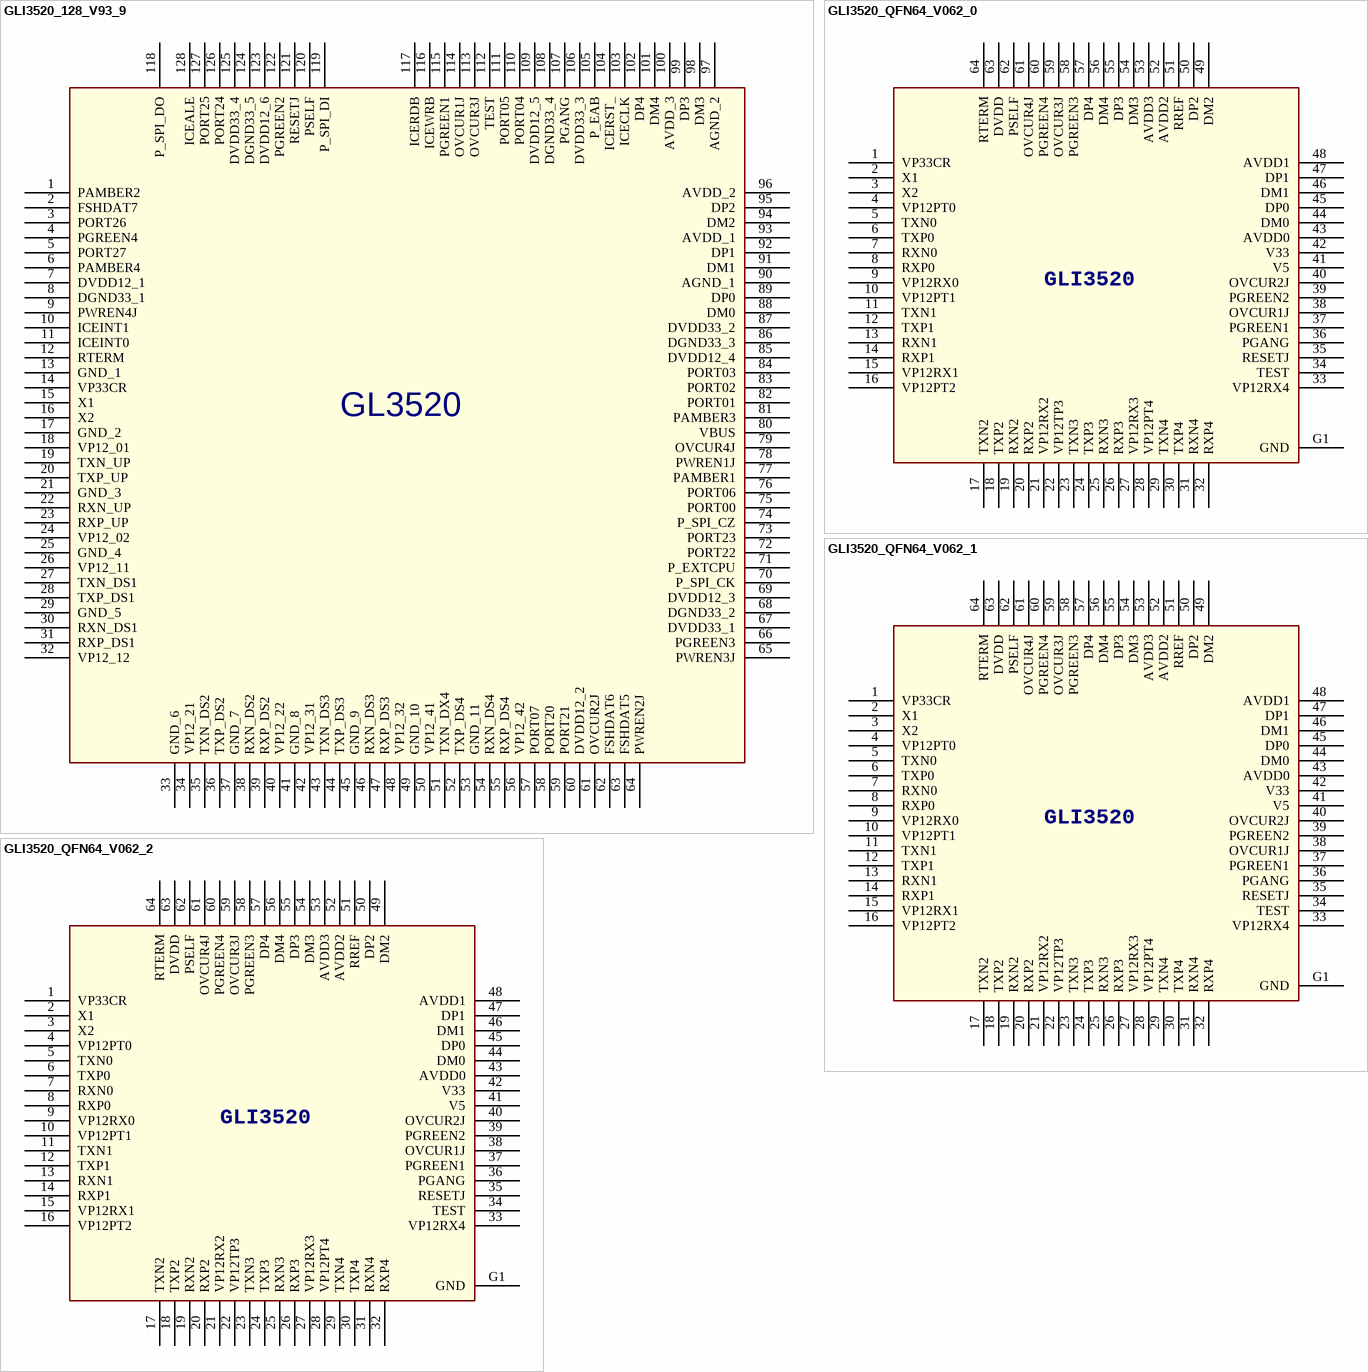
[diagram p19: symbols GLI3520_128_V93_9 to GLI3520_QFN64_V062_2]

## GLI3520_128_V93_9
designator U?
footprint I-LQFP128-0_4A
pins: 1 PAMBER2, 2 FSHDAT7, 3 PORT26, 4 PGREEN4, 5 PORT27, 6 PAMBER4, 7 DVDD12_1, 8 DGND33_1, 9 PWREN4J, 10 ICEINT1, 11 ICEINT0, 12 RTERM, 13 GND_1, 14 VP33CR, 15 X1, 16 X2, 17 GND_2, 18 VP12_01, 19 TXN_UP, 20 TXP_UP, 21 GND_3, 22 RXN_UP, 23 RXP_UP, 24 VP12_02, 25 GND_4, 26 VP12_11, 27 TXN_DS1, 28 TXP_DS1, 29 GND_5, 30 RXN_DS1, 31 RXP_DS1, 32 VP12_12, 33 GND_6, 34 VP12_21, 35 TXN_DS2, 36 TXP_DS2, 37 GND_7, 38 RXN_DS2, 39 RXP_DS2, 40 VP12_22, 41 GND_8, 42 VP12_31, 43 TXN_DS3, 44 TXP_DS3, 45 GND_9, 46 RXN_DS3, 47 RXP_DS3, 48 VP12_32, 49 GND_10, 50 VP12_41, 51 TXN_DX4, 52 TXP_DS4, 53 GND_11, 54 RXN_DS4, 55 RXP_DS4, 56 VP12_42, 57 PORT07, 58 PORT20, 59 PORT21, 60 DVDD12_2, 61 OVCUR2J, 62 FSHDAT6, 63 FSHDAT5, 64 PWREN2J, 65 PWREN3J, 66 PGREEN3, 67 DVDD33_1, 68 DGND33_2, 69 DVDD12_3, 70 P_SPI_CK, 71 P_EXTCPU, 72 PORT22, 73 PORT23, 74 P_SPI_CZ, 75 PORT00, 76 PORT06, 77 PAMBER1, 78 PWREN1J, 79 OVCUR4J, 80 VBUS, 81 PAMBER3, 82 PORT01, 83 PORT02, 84 PORT03, 85 DVDD12_4, 86 DGND33_3, 87 DVDD33_2, 88 DM0, 89 DP0, 90 AGND_1, 91 DM1, 92 DP1, 93 AVDD_1, 94 DM2, 95 DP2, 96 AVDD_2, 97 AGND_2, 98 DM3, 99 DP3, 100 AVDD_3, 101 DM4, 102 DP4, 103 ICECLK, 104 ICERST_, 105 P_EAB, 106 DVDD33_3, 107 PGANG, 108 DGND33_4, 109 DVDD12_5, 110 PORT04, 111 PORT05, 112 TEST, 113 OVCUR3J, 114 OVCUR1J, 115 PGREEN1, 116 ICEWRB, 117 ICERDB, 118 P_SPI_DO, 119 P_SPI_DI, 120 PSELF, 121 RESETJ, 122 PGREEN2, 123 DVDD12_6, 124 DGND33_5, 125 DVDD33_4, 126 PORT24, 127 PORT25, 128 ICEALE
text: GL3520

## GLI3520_QFN64_V062_0
designator U?
pins: 1 VP33CR, 2 X1, 3 X2, 4 VP12PT0, 5 TXN0, 6 TXP0, 7 RXN0, 8 RXP0, 9 VP12RX0, 10 VP12PT1, 11 TXN1, 12 TXP1, 13 RXN1, 14 RXP1, 15 VP12RX1, 16 VP12PT2, 17 TXN2, 18 TXP2, 19 RXN2, 20 RXP2, 21 VP12RX2, 22 VP12TP3, 23 TXN3, 24 TXP3, 25 RXN3, 26 RXP3, 27 VP12RX3, 28 VP12PT4, 29 TXN4, 30 TXP4, 31 RXN4, 32 RXP4, 33 VP12RX4, 34 TEST, 35 RESETJ, 36 PGANG, 37 PGREEN1, 38 OVCUR1J, 39 PGREEN2, 40 OVCUR2J, 41 V5, 42 V33, 43 AVDD0, 44 DM0, 45 DP0, 46 DM1, 47 DP1, 48 AVDD1, 49 DM2, 50 DP2, 51 RREF, 52 AVDD2, 53 AVDD3, 54 DM3, 55 DP3, 56 DM4, 57 DP4, 58 PGREEN3, 59 OVCUR3J, 60 PGREEN4, 61 OVCUR4J, 62 PSELF, 63 DVDD, 64 RTERM, G1 GND
text: GLI3520

## GLI3520_QFN64_V062_1
designator U?
footprint I-LQFN64-9x9x0_5A
pins: 1 VP33CR, 2 X1, 3 X2, 4 VP12PT0, 5 TXN0, 6 TXP0, 7 RXN0, 8 RXP0, 9 VP12RX0, 10 VP12PT1, 11 TXN1, 12 TXP1, 13 RXN1, 14 RXP1, 15 VP12RX1, 16 VP12PT2, 17 TXN2, 18 TXP2, 19 RXN2, 20 RXP2, 21 VP12RX2, 22 VP12TP3, 23 TXN3, 24 TXP3, 25 RXN3, 26 RXP3, 27 VP12RX3, 28 VP12PT4, 29 TXN4, 30 TXP4, 31 RXN4, 32 RXP4, 33 VP12RX4, 34 TEST, 35 RESETJ, 36 PGANG, 37 PGREEN1, 38 OVCUR1J, 39 PGREEN2, 40 OVCUR2J, 41 V5, 42 V33, 43 AVDD0, 44 DM0, 45 DP0, 46 DM1, 47 DP1, 48 AVDD1, 49 DM2, 50 DP2, 51 RREF, 52 AVDD2, 53 AVDD3, 54 DM3, 55 DP3, 56 DM4, 57 DP4, 58 PGREEN3, 59 OVCUR3J, 60 PGREEN4, 61 OVCUR4J, 62 PSELF, 63 DVDD, 64 RTERM, G1 GND
text: GLI3520

## GLI3520_QFN64_V062_2
designator U?
footprint I-LQFN64-9x9x0_5A
pins: 1 VP33CR, 2 X1, 3 X2, 4 VP12PT0, 5 TXN0, 6 TXP0, 7 RXN0, 8 RXP0, 9 VP12RX0, 10 VP12PT1, 11 TXN1, 12 TXP1, 13 RXN1, 14 RXP1, 15 VP12RX1, 16 VP12PT2, 17 TXN2, 18 TXP2, 19 RXN2, 20 RXP2, 21 VP12RX2, 22 VP12TP3, 23 TXN3, 24 TXP3, 25 RXN3, 26 RXP3, 27 VP12RX3, 28 VP12PT4, 29 TXN4, 30 TXP4, 31 RXN4, 32 RXP4, 33 VP12RX4, 34 TEST, 35 RESETJ, 36 PGANG, 37 PGREEN1, 38 OVCUR1J, 39 PGREEN2, 40 OVCUR2J, 41 V5, 42 V33, 43 AVDD0, 44 DM0, 45 DP0, 46 DM1, 47 DP1, 48 AVDD1, 49 DM2, 50 DP2, 51 RREF, 52 AVDD2, 53 AVDD3, 54 DM3, 55 DP3, 56 DM4, 57 DP4, 58 PGREEN3, 59 OVCUR3J, 60 PGREEN4, 61 OVCUR4J, 62 PSELF, 63 DVDD, 64 RTERM, G1 GND
text: GLI3520

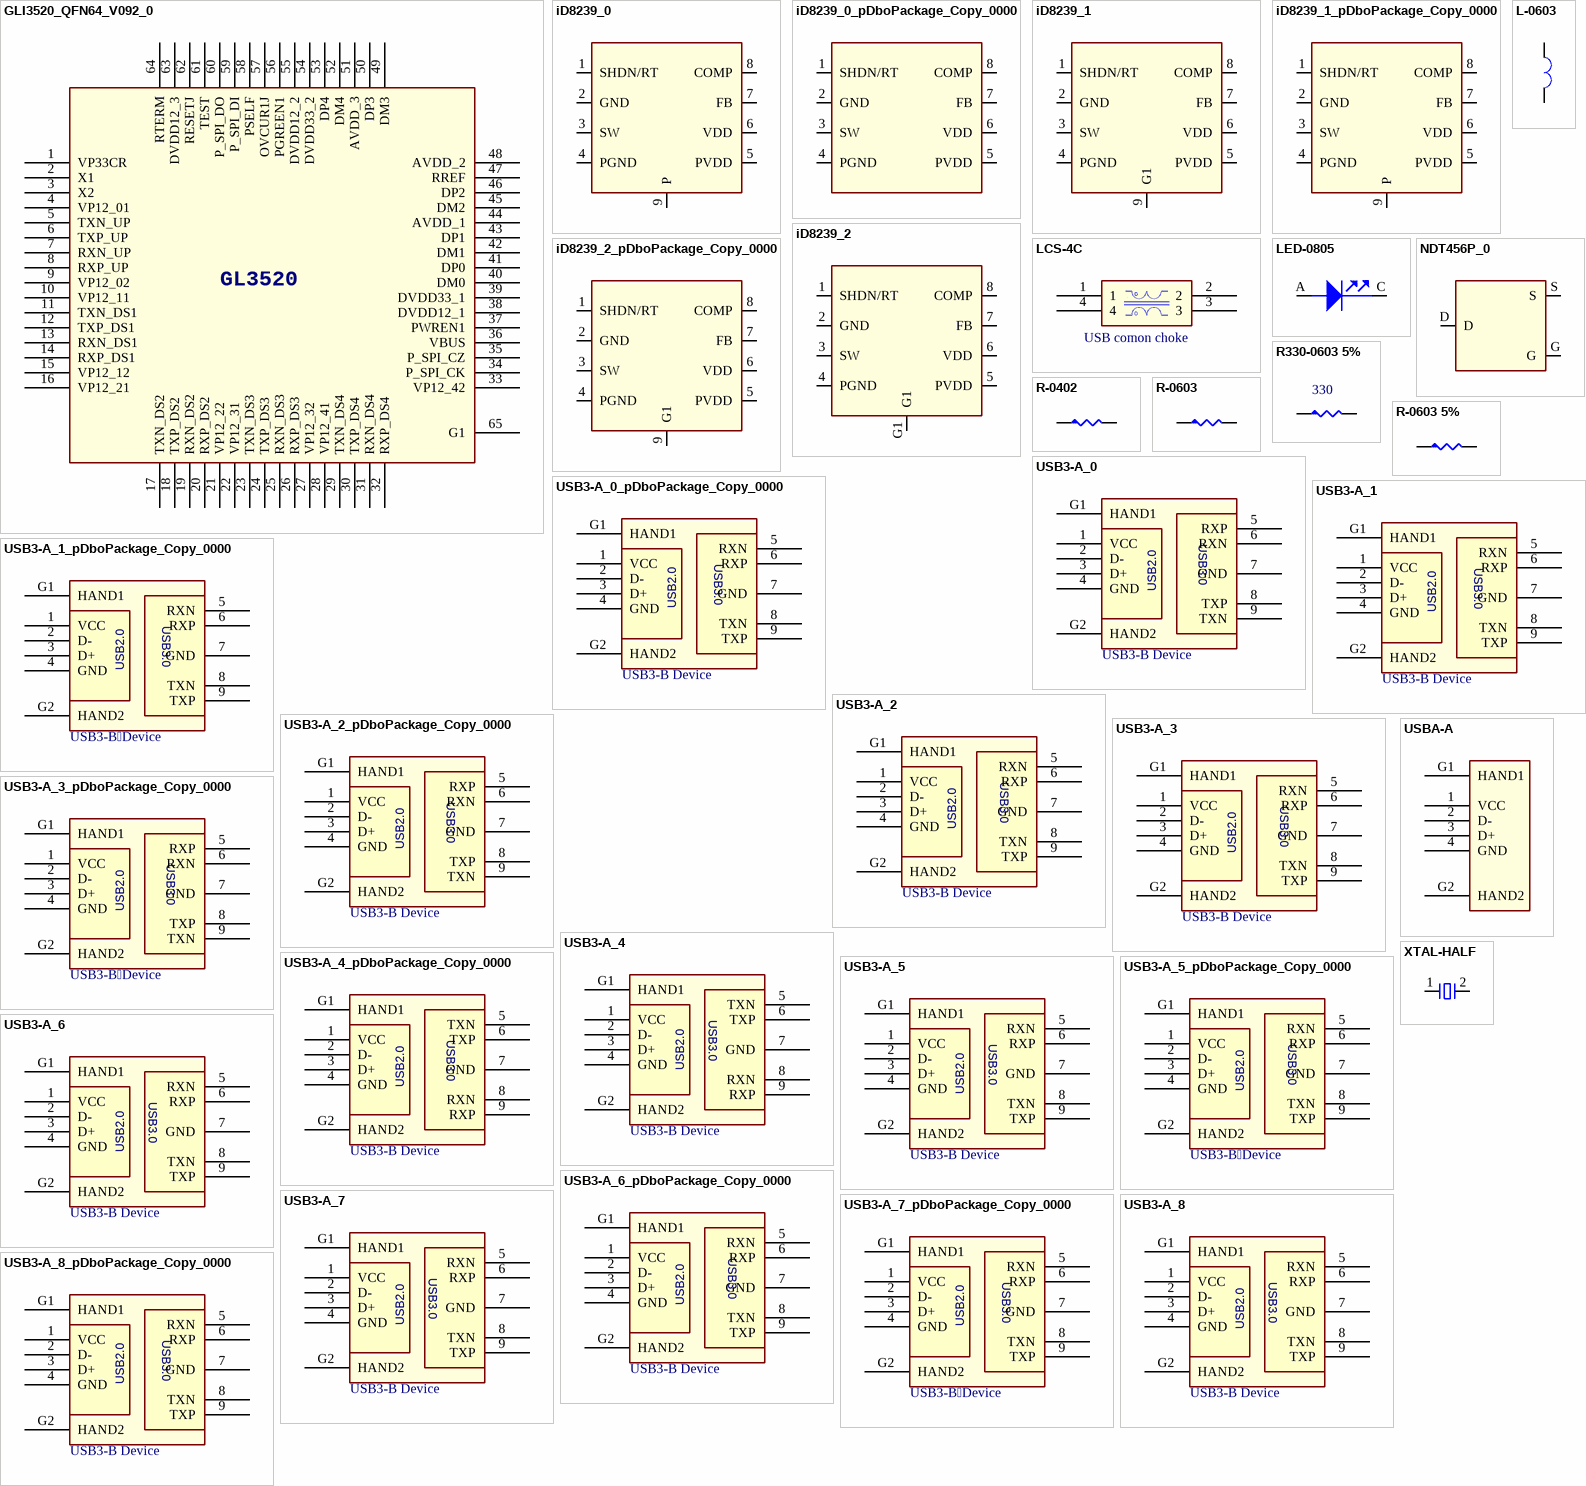
[diagram p20: symbols GLI3520_QFN64_V092_0 to XTAL-HALF]